# Altium integrated library Actel Axcelerator.IntLib: 120 symbols (part 22 of 31)
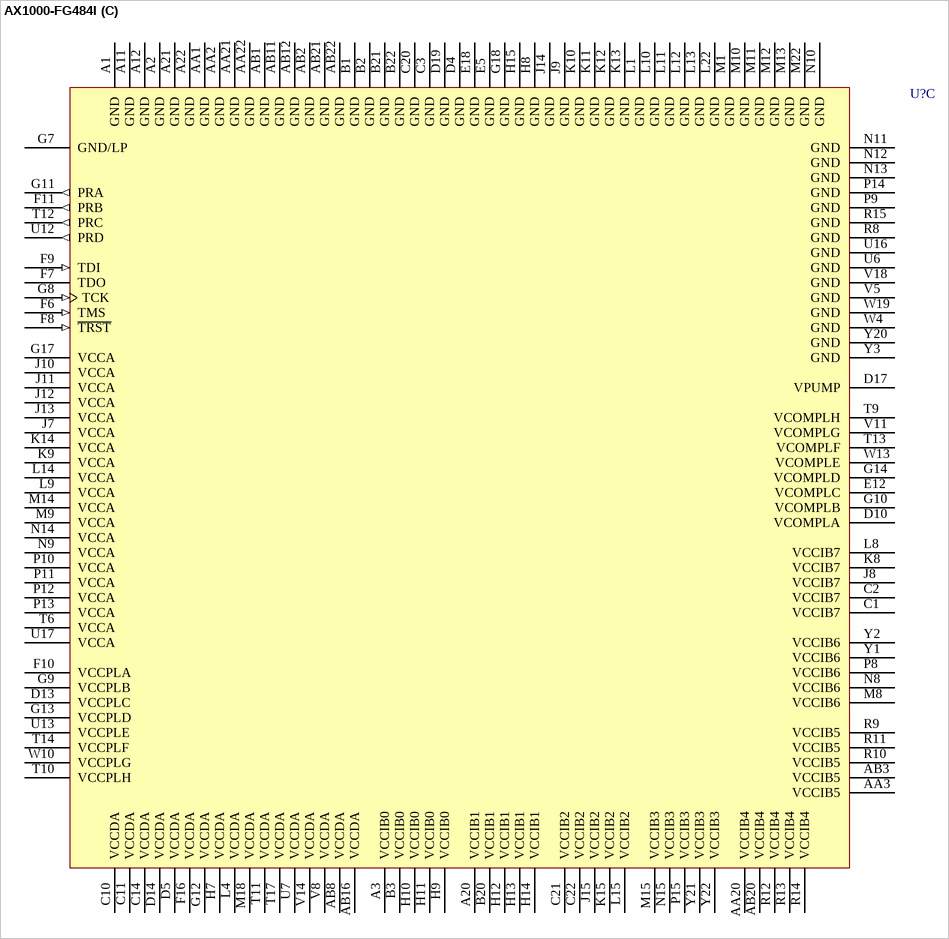
[diagram p375: symbol AX1000-FG484I]

## AX1000-FG484I
designator U?
Axcelerator AX1000 FPGA, 317 User I/Os, 484-Pin FBGA, Standard Speed Grade, Industrial Grade; ComponentAvailability: Limited Availability; Published: 17-Sep-2003; LatestRevisionDate: 13-Apr-2006; LatestRevisionNote: IPC-7351 Footprint Added.; DatasheetVersion: Jan-2005; PackageVersion: v9.2, Apr-2006; PackageReference: FG484; Publisher: Altium Limited; PackageDescription: 484-Ball Fine Pitch Plastic Ball Grid Array (FG484) - Fully Populated; Code_JEDEC: MS-034-AAJ-1; Code_IPC: BGA100P22X22-484; ComponentLink1Description: Manufacturer Link; ComponentLink1URL: http://www.actel.com/products/axcelerator/index.html; ComponentLink2Description: Datasheet; ComponentLink2URL: http://www.actel.com/documents/AXDS.pdf
footprint FG484 (BGA, 484-Leads, Body 23x23mm, Pitch 1mm)
3D model AX1000-FG484 (484-Ball Fine Pitch Plastic Ball Grid Array (FG484) - Fully Populated)
part A pins: A4 IO16PB0F1 (io), A5 IO16NB0F1 (io), A6 IO18PB0F1 (io), A7 IO18NB0F1 (io), A8 IO22PB0F2 (io), A9 IO22NB0F2 (io), A10 IO23PB0F2 (io), A13 IO26PB0F2 (io), A14 IO26NB0F2 (io), A15 IO38PB1F3 (io), A16 IO38NB1F3 (io), A17 IO42PB1F4 (io), A18 IO42NB1F4 (io), A19 IO45PB1F4 (io), B4 IO13PB0F1 (io), B5 IO13NB0F1 (io), B6 IO17PB0F1 (io), B7 IO17NB0F1 (io), B8 IO21PB0F1 (io), B9 IO21NB0F1 (io), B10 IO23NB0F2 (io), B11 IO29PB0F2 (io), B12 IO29NB0F2 (io), B13 IO37PB1F3 (io), B14 IO37NB1F3 (io), B15 IO43PB1F4 (io), B16 IO43NB1F4 (io), B17 IO44PB1F4 (io), B18 IO44NB1F4 (io), B19 IO45NB1F4 (io), C4 IO06PB0F0 (io), C5 IO06NB0F0 (io), C6 IO15PB0F1 (io), C7 IO15NB0F1 (io), C8 IO19PB0F1 (io), C9 IO19NB0F1 (io), C12 IO34PB1F3 (io), C13 IO34NB1F3 (io), C15 IO40NB1F3 (io), C16 IO50PB1F4 (io), C17 IO50NB1F4 (io), C18 IO46PB1F4 (io), C19 IO46NB1F4 (io), D2 IO05NB0F0 (io), D3 IO01PB0F0 (io), D6 IO12PB0F1 (io), D7 IO12NB0F1 (io), D8 IO20PB0F1 (io), D9 IO20NB0F1 (io), D11 IO31PB0F2/HCLKBP (io), D12 IO31NB0F2/HCLKBN (io), D15 IO49PB1F4 (io), D16 IO49NB1F4 (io), D18 IO61NB1F5 (io), D20 IO63PB1F5 (io), D21 IO57PB1F5 (io), D22 IO51PB1F4 (io), E2 IO05PB0F0 (io), E3 IO01NB0F0 (io), E6 IO02PB0F0 (io), E7 IO02NB0F0 (io), E8 IO14PB0F1 (io), E9 IO14NB0F1 (io), E10 IO30PB0F2/HCLKAP (io), E11 IO30NB0F2/HCLKAN (io), E13 IO33PB1F3/HCLKDP (io), E14 IO33NB1F3/HCLKDN (io), E15 IO52PB1F4 (io), E16 IO52NB1F4 (io), E17 IO61PB1F5 (io), E19 IO67PB2F6 (io), E20 IO63NB1F5 (io), E21 IO57NB1F5 (io), E22 IO51NB1F4 (io), F12 IO32PB1F3/HCLKCP (io), F13 IO32NB1F3/HCLKCN (io), F14 IO48PB1F4 (io), F15 IO48NB1F4 (io), F17 IO64PB2F6 (io), F18 IO64NB2F6 (io), F19 IO67NB2F6 (io), F20 IO75PB2F7 (io), F21 IO85PB2F8 (io), F22 IO86PB2F8 (io), G15 IO60PB1F5 (io), G16 IO60NB1F5 (io), G19 IO79PB2F7 (io), G20 IO75NB2F7 (io), G21 IO85NB2F8 (io), G22 IO86NB2F8 (io), H16 IO68PB2F6 (io), H17 IO70PB2F6 (io), H18 IO74PB2F7 (io), H19 IO79NB2F7 (io), H20 IO87PB2F8 (io), H21 IO90PB2F8 (io), H22 IO91PB2F8 (io), J16 IO68NB2F6 (io), J17 IO70NB2F6 (io), J18 IO74NB2F7 (io), J19 IO89PB2F8 (io), J20 IO87NB2F8 (io), J21 IO90NB2F8 (io), J22 IO91NB2F8 (io), K16 IO80PB2F7 (io), K17 IO84PB2F7 (io), K18 IO88PB2F8 (io), K19 IO89NB2F8 (io), K20 IO94PB2F8 (io), K21 IO93NB2F8 (io), K22 IO93PB2F8 (io), L16 IO80NB2F7 (io), L17 IO84NB2F7 (io), L18 IO88NB2F8 (io), L19 IO97PB3F9 (io), L20 IO94NB2F8 (io), L21 IO95PB2F8 (io), M16 IO96PB3F9 (io), M17 IO100PB3F9 (io), M19 IO97NB3F9 (io), M20 IO99PB3F9 (io), M21 IO95NB2F8 (io), N16 IO96NB3F9 (io), N17 IO100NB3F9 (io), N18 IO104NB3F9 (io), N19 IO104PB3F9 (io), N20 IO99NB3F9 (io), N21 IO101PB3F9 (io), N22 IO98PB3F9 (io), P16 IO124PB3F11 (io), P17 IO106PB3F9 (io), P18 IO114NB3F10 (io), P19 IO114PB3F10 (io), P20 IO103PB3F9 (io), P21 IO101NB3F9 (io), P22 IO98NB3F9 (io), R16 IO124NB3F11 (io), R17 IO106NB3F9 (io), R18 IO118PB3F11 (io), R19 IO116PB3F10 (io), R20 IO103NB3F9 (io), R21 IO107PB3F10 (io), R22 IO105PB3F9 (io), T18 IO118NB3F11 (io), T19 IO121PB3F11 (io), T20 IO117PB3F10 (io), T21 IO107NB3F10 (io), T22 IO105NB3F9 (io), U19 IO121NB3F11 (io), U20 IO117NB3F10 (io), U21 IO113PB3F10 (io), U22 IO110PB3F10 (io), V21 IO113NB3F10 (io), V22 IO110NB3F10 (io), W21 IO127NB3F11 (io), W22 IO127PB3F11 (io)
part B pins: AA4 IO177NB5F16 (io), AA5 IO176NB5F16 (io), AA6 IO176PB5F16 (io), AA7 IO174NB5F16 (io), AA8 IO174PB5F16 (io), AA9 IO169NB5F15 (io), AA10 IO169PB5F15 (io), AA11 IO167NB5F15 (io), AA12 IO167PB5F15 (io), AA13 IO155NB4F14 (io), AA14 IO152NB4F14 (io), AA15 IO152PB4F14 (io), AA16 IO150NB4F13 (io), AA17 IO150PB4F13 (io), AA18 IO144NB4F13 (io), AA19 IO144PB4F13 (io), AB4 IO177PB5F16 (io), AB5 IO175NB5F16 (io), AB6 IO175PB5F16 (io), AB7 IO184NB5F17 (io), AB9 IO170NB5F15 (io), AB10 IO170PB5F15 (io), AB13 IO155PB4F14 (io), AB14 IO154NB4F14 (io), AB15 IO154PB4F14 (io), AB17 IO129PB4F12 (io), AB18 IO147NB4F13 (io), AB19 IO147PB4F13 (io), D1 IO254NB7F23 (io), E1 IO254PB7F23 (io), E4 IO257PB7F23 (io), F1 IO234NB7F21 (io), F2 IO235NB7F21 (io), F3 IO246NB7F22 (io), F4 IO250NB7F23 (io), F5 IO257NB7F23 (io), G1 IO234PB7F21 (io), G2 IO235PB7F21 (io), G3 IO246PB7F22 (io), G4 IO250PB7F23 (io), G5 IO253NB7F23 (io), G6 IO253PB7F23 (io), H1 IO230NB7F21 (io), H2 IO231NB7F21 (io), H3 IO236NB7F22 (io), H4 IO242NB7F22 (io), H5 IO243NB7F22 (io), H6 IO241NB7F22 (io), J1 IO230PB7F21 (io), J2 IO231PB7F21 (io), J3 IO236PB7F22 (io), J4 IO242PB7F22 (io), J5 IO243PB7F22 (io), J6 IO241PB7F22 (io), K1 IO226PB7F21 (io), K2 IO226NB7F21 (io), K3 IO232PB7F21 (io), K4 IO232NB7F21 (io), K5 IO229NB7F21 (io), K6 IO233NB7F21 (io), K7 IO237NB7F22 (io), L2 IO228PB7F21 (io), L3 IO228NB7F21 (io), L5 IO229PB7F21 (io), L6 IO233PB7F21 (io), L7 IO237PB7F22 (io), M2 IO225NB7F21 (io), M3 IO222NB6F20 (io), M4 IO224NB6F20 (io), M5 IO219NB6F20 (io), M6 IO215NB6F20 (io), M7 IO223NB6F20 (io), N1 IO225PB7F21 (io), N2 IO221NB6F20 (io), N3 IO222PB6F20 (io), N4 IO224PB6F20 (io), N5 IO219PB6F20 (io), N6 IO215PB6F20 (io), N7 IO223PB6F20 (io), P1 IO220NB6F20 (io), P2 IO221PB6F20 (io), P3 IO214NB6F20 (io), P4 IO212NB6F19 (io), P5 IO205NB6F19 (io), P6 IO201NB6F18 (io), P7 IO209NB6F19 (io), R1 IO220PB6F20 (io), R2 IO216NB6F20 (io), R3 IO214PB6F20 (io), R4 IO212PB6F19 (io), R5 IO205PB6F19 (io), R6 IO201PB6F18 (io), R7 IO209PB6F19 (io), T1 IO217NB6F20 (io), T2 IO216PB6F20 (io), T3 IO204NB6F19 (io), T4 IO200NB6F18 (io), T5 IO195PB6F18 (io), T7 IO179NB5F16 (io), T8 IO179PB5F16 (io), T15 IO135NB4F12 (io), T16 IO135PB4F12 (io), U1 IO217PB6F20 (io), U2 IO203NB6F19 (io), U3 IO204PB6F19 (io), U4 IO200PB6F18 (io), U5 IO195NB6F18 (io), U8 IO173NB5F16 (io), U9 IO173PB5F16 (io), U10 IO161NB5F15/CLKGN (io), U11 IO161PB5F15/CLKGP (io), U14 IO145NB4F13 (io), U15 IO145PB4F13 (io), U18 IO140NB4F13 (io), V1 IO208NB6F19 (io), V2 IO194NB6F18 (io), V3 IO187NB5F17 (io), V4 IO188NB5F17 (io), V6 IO192NB5F17 (io), V7 IO192PB5F17 (io), V9 IO162NB5F15/CLKHN (io), V10 IO162PB5F15/CLKHP (io), V12 IO159NB4F14/CLKEN (io), V13 IO159PB4F14/CLKEP (io), V15 IO139NB4F13 (io), V16 IO139PB4F13 (io), V17 IO133PB4F12 (io), V19 IO140PB4F13 (io), V20 IO142PB4F13 (io), W1 IO208PB6F19 (io), W2 IO194PB6F18 (io), W3 IO187PB5F17 (io), W5 IO188PB5F17 (io), W6 IO180NB5F16 (io), W7 IO180PB5F16 (io), W8 IO171NB5F16 (io), W9 IO171PB5F16 (io), W11 IO160NB4F14/CLKFN (io), W12 IO160PB4F14/CLKFP (io), W14 IO149PB4F13 (io), W15 IO143NB4F13 (io), W16 IO143PB4F13 (io), W17 IO133NB4F12 (io), W18 IO132PB4F12 (io), W20 IO142NB4F13 (io), Y4 IO181NB5F17 (io), Y5 IO181PB5F17 (io), Y6 IO178NB5F16 (io), Y7 IO178PB5F16 (io), Y8 IO172NB5F16 (io), Y9 IO172PB5F16 (io), Y10 IO163NB5F15 (io), Y11 IO163PB5F15 (io), Y12 IO158NB4F14 (io), Y13 IO158PB4F14 (io), Y14 IO149NB4F13 (io), Y15 IO146NB4F13 (io), Y16 IO146PB4F13 (io), Y17 IO138NB4F12 (io), Y18 IO138PB4F12 (io), Y19 IO132NB4F12 (io)
part C pins: A1 GND (power), A2 GND (power), A3 VCCIB0 (power), A11 GND (power), A12 GND (power), A20 VCCIB1 (power), A21 GND (power), A22 GND (power), AA1 GND (power), AA2 GND (power), AA3 VCCIB5 (power), AA20 VCCIB4 (power), AA21 GND (power), AA22 GND (power), AB1 GND (power), AB2 GND (power), AB3 VCCIB5 (power), AB8 VCCDA (power), AB11 GND (power), AB12 GND (power), AB16 VCCDA (power), AB20 VCCIB4 (power), AB21 GND (power), AB22 GND (power), B1 GND (power), B2 GND (power), B3 VCCIB0 (power), B20 VCCIB1 (power), B21 GND (power), B22 GND (power), C1 VCCIB7 (power), C2 VCCIB7 (power), C3 GND (power), C10 VCCDA (power), C11 VCCDA (power), C14 VCCDA (power), C20 GND (power), C21 VCCIB2 (power), C22 VCCIB2 (power), D4 GND (power), D5 VCCDA (power), D10 VCOMPLA (power), D13 VCCPLC (power), D14 VCCDA (power), D17 VPUMP (power), D19 GND (power), E5 GND (power), E12 VCOMPLC (power), E18 GND (power), F6 TMS (in), F7 TDO (hiz), F8 ~{TRST} (in), F9 TDI (in), F10 VCCPLA (power), F11 PRB (out), F16 VCCDA (power), G7 GND/LP (power), G8 TCK (in), G9 VCCPLB (power), G10 VCOMPLB (power), G11 PRA (out), G12 VCCDA (power), G13 VCCPLD (power), G14 VCOMPLD (power), G17 VCCA (power), G18 GND (power), H7 VCCDA (power), H8 GND (power), H9 VCCIB0 (power), H10 VCCIB0 (power), H11 VCCIB0 (power), H12 VCCIB1 (power), H13 VCCIB1 (power), H14 VCCIB1 (power), H15 GND (power), J7 VCCA (power), J8 VCCIB7 (power), J9 GND (power), J10 VCCA (power), J11 VCCA (power), J12 VCCA (power), J13 VCCA (power), J14 GND (power), J15 VCCIB2 (power), K8 VCCIB7 (power), K9 VCCA (power), K10 GND (power), K11 GND (power), K12 GND (power), K13 GND (power), K14 VCCA (power), K15 VCCIB2 (power), L1 GND (power), L4 VCCDA (power), L8 VCCIB7 (power), L9 VCCA (power), L10 GND (power), L11 GND (power), L12 GND (power), L13 GND (power), L14 VCCA (power), L15 VCCIB2 (power), L22 GND (power), M1 GND (power), M8 VCCIB6 (power), M9 VCCA (power), M10 GND (power), M11 GND (power), M12 GND (power), M13 GND (power), M14 VCCA (power), M15 VCCIB3 (power), M18 VCCDA (power), M22 GND (power), N8 VCCIB6 (power), N9 VCCA (power), N10 GND (power), N11 GND (power), N12 GND (power), N13 GND (power), N14 VCCA (power), N15 VCCIB3 (power), P8 VCCIB6 (power), P9 GND (power), P10 VCCA (power), P11 VCCA (power), P12 VCCA (power), P13 VCCA (power), P14 GND (power), P15 VCCIB3 (power), R8 GND (power), R9 VCCIB5 (power), R10 VCCIB5 (power), R11 VCCIB5 (power), R12 VCCIB4 (power), R13 VCCIB4 (power), R14 VCCIB4 (power), R15 GND (power), T6 VCCA (power), T9 VCOMPLH (power), T10 VCCPLH (power), T11 VCCDA (power), T12 PRC (out), T13 VCOMPLF (power), T14 VCCPLF (power), T17 VCCDA (power), U6 GND (power), U7 VCCDA (power), U12 PRD (out), U13 VCCPLE (power), U16 GND (power), U17 VCCA (power), V5 GND (power), V8 VCCDA (power), V11 VCOMPLG (power), V14 VCCDA (power), V18 GND (power), W4 GND (power), W10 VCCPLG (power), W13 VCOMPLE (power), W19 GND (power), Y1 VCCIB6 (power), Y2 VCCIB6 (power), Y3 GND (power), Y20 GND (power), Y21 VCCIB3 (power), Y22 VCCIB3 (power)
part A text: Bank 0; Bank 3; Bank 1; Bank 2
part B text: Bank 4; Bank 7; Bank 5; Bank 6

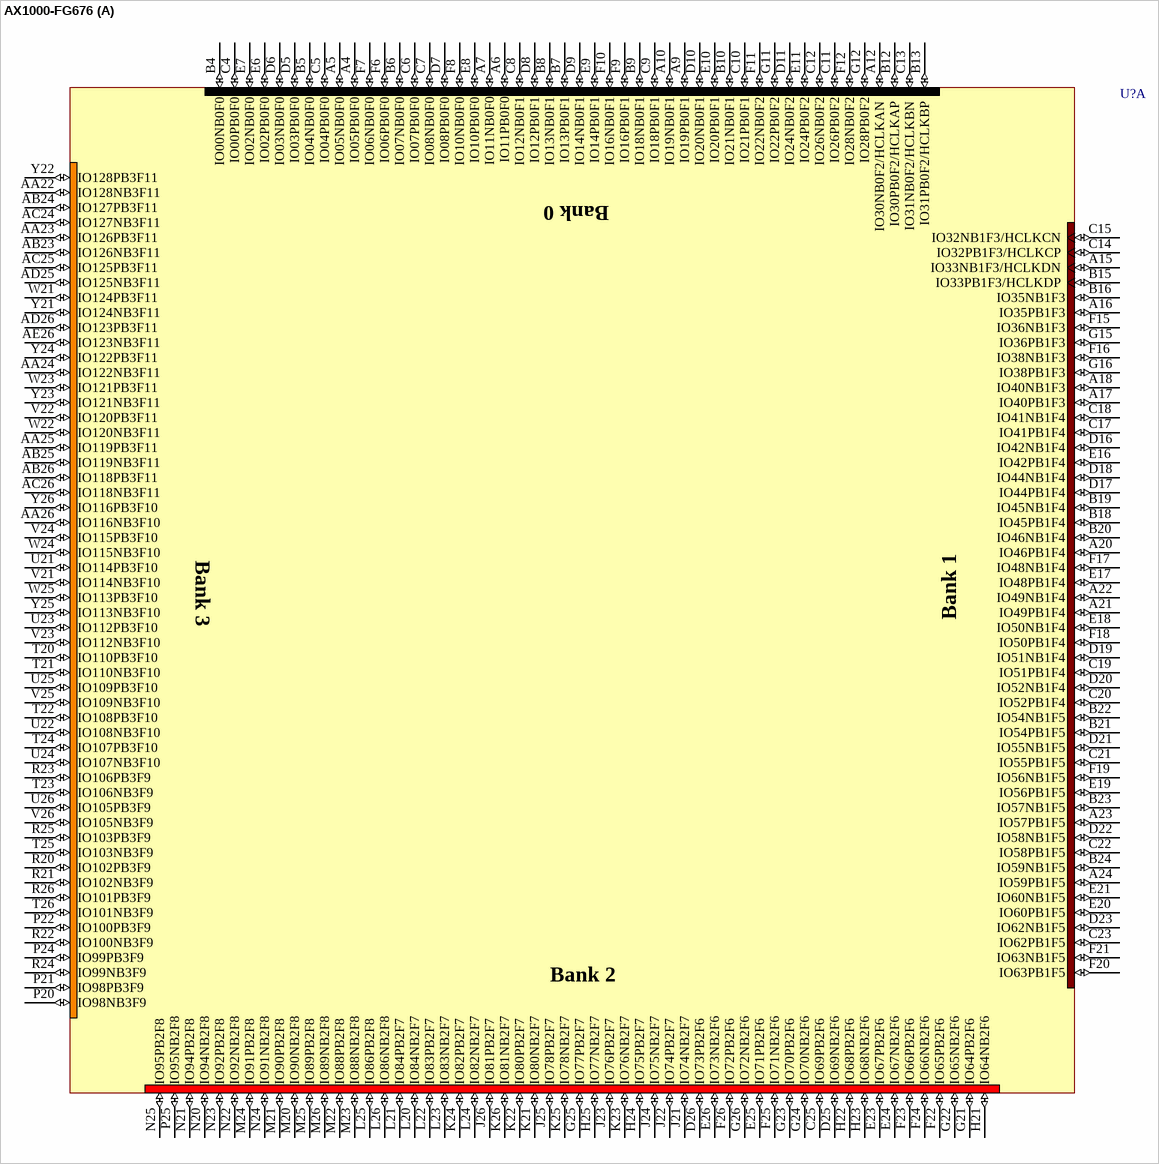
[diagram p243: symbol AX1000-FG676]

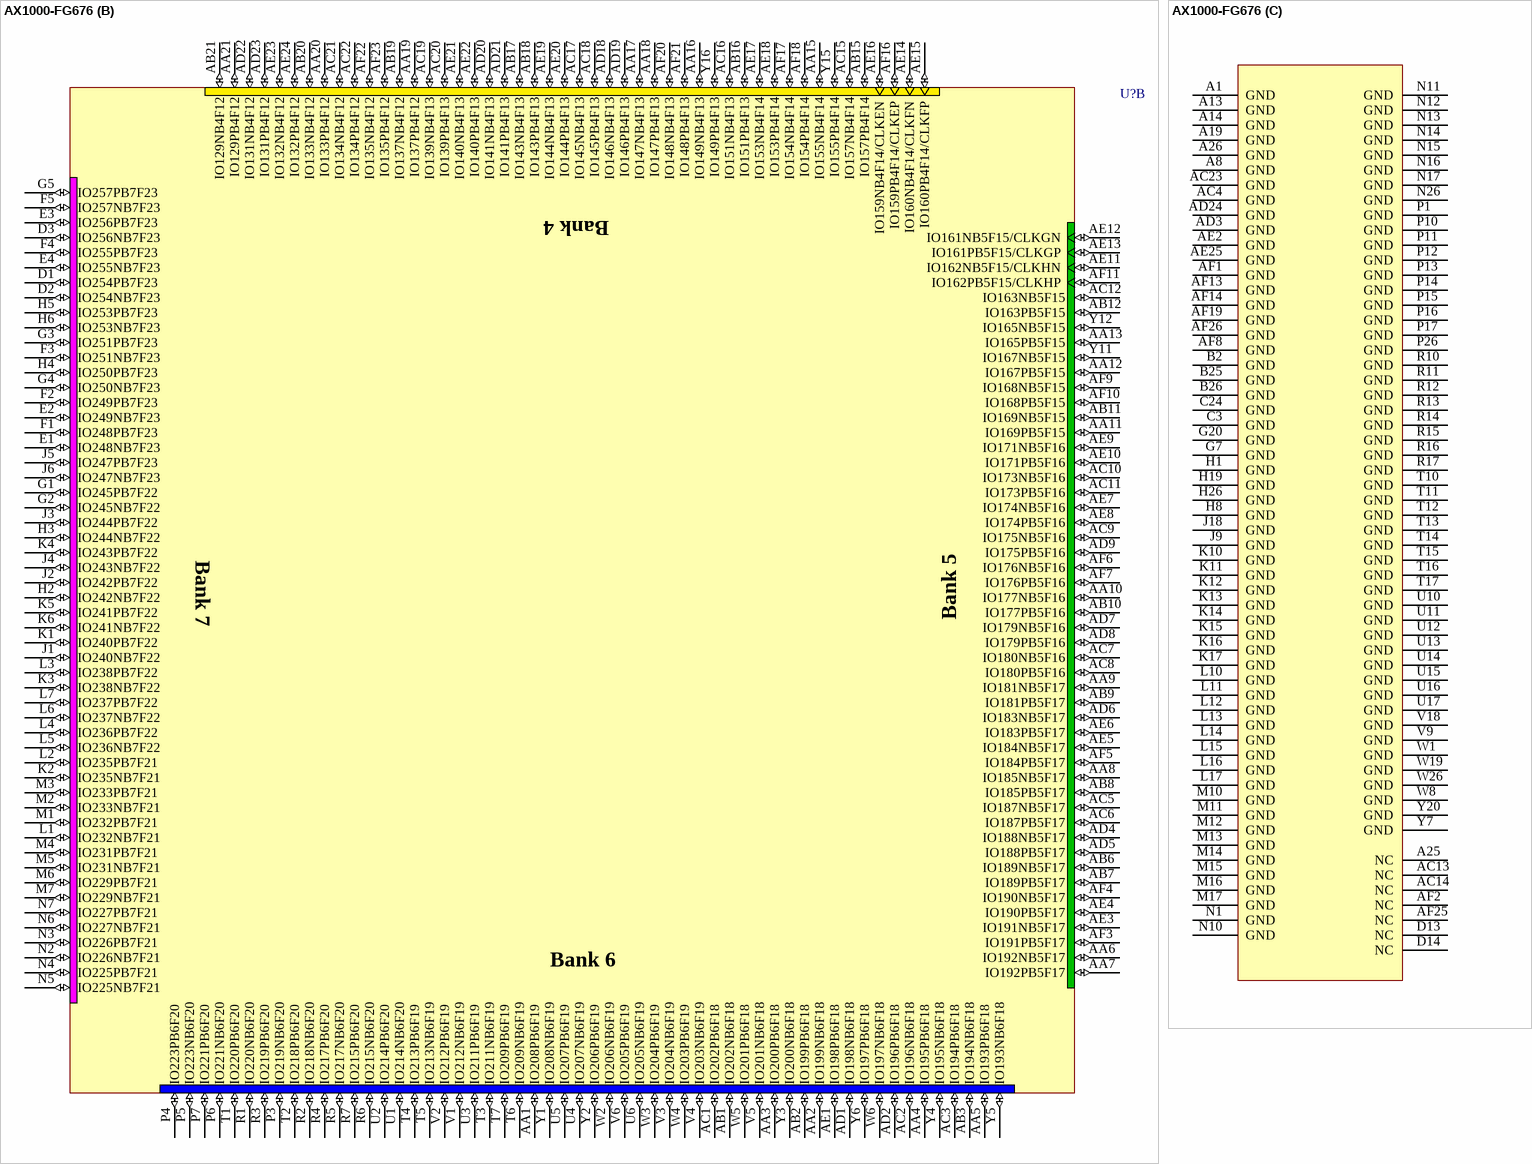
[diagram p244: symbol AX1000-FG676]

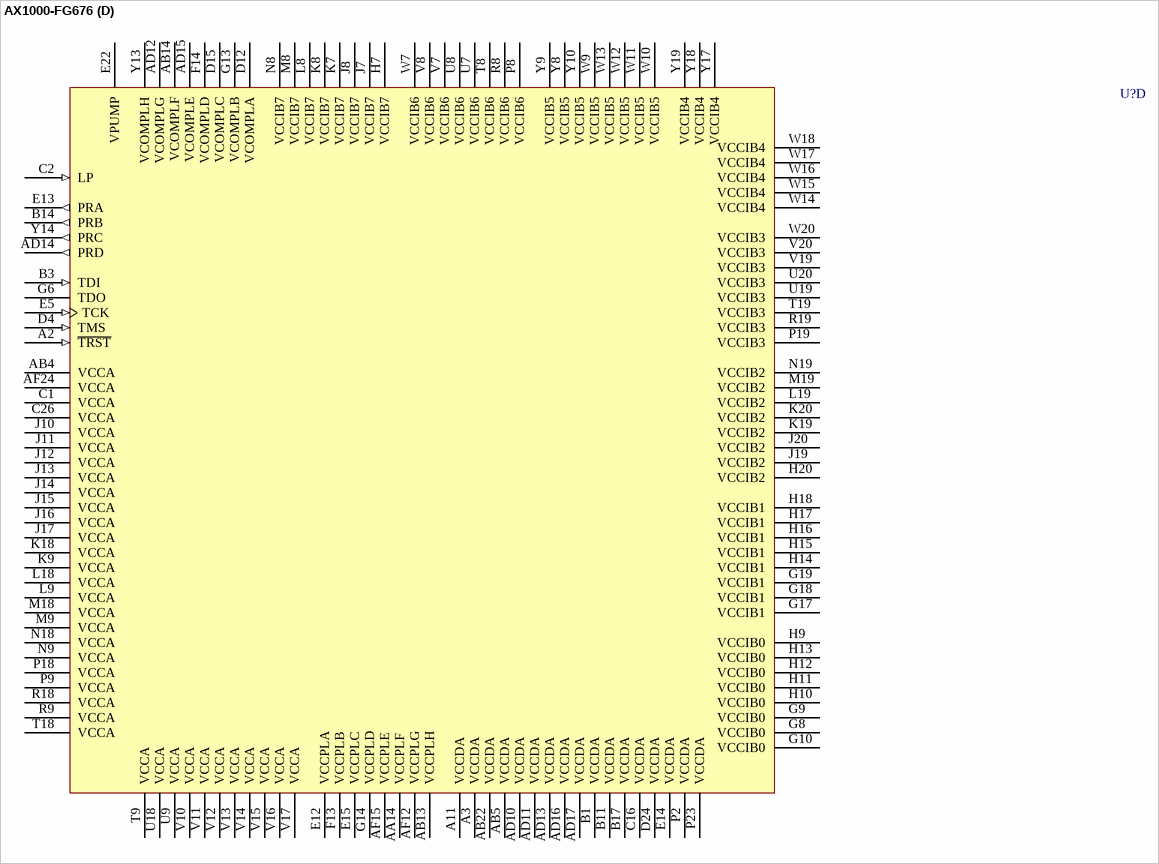
[diagram p245: symbol AX1000-FG676]

## AX1000-FG676
designator U?
Axcelerator AX1000 FPGA, 418 I/Os, 676-Pin FBGA, Standard Speed Grade, Commercial Grade; ComponentAvailability: Limited Availability; Published: 21-May-2003; LatestRevisionDate: 13-Apr-2006; LatestRevisionNote: IPC-7351 Footprint Added.; DatasheetVersion: Jan-2005; PackageVersion: v9.2, Apr-2006; PackageReference: FG676; Publisher: Altium Limited; PackageDescription: 676-Ball Fine Pitch Plastic Ball Grid Array (FG676); Code_JEDEC: MS-034-AAL-1; Code_IPC: BGA100P26X26-676; ComponentLink1Description: Manufacturer Link; ComponentLink1URL: http://www.actel.com/products/axcelerator/index.html; ComponentLink2Description: Datasheet; ComponentLink2URL: http://www.actel.com/documents/AXDS.pdf
footprint FG676 (BGA, 676-Leads, Body 27x27mm, Pitch 1mm)
3D model AX1000-FG676 (676-Ball Fine Pitch Plastic Ball Grid Array (FG676))
part A pins: A4 IO05PB0F0 (io), A5 IO05NB0F0 (io), A6 IO11PB0F0 (io), A7 IO11NB0F0 (io), A9 IO19PB0F1 (io), A10 IO19NB0F1 (io), A12 IO30NB0F2/HCLKAN (io), A15 IO33NB1F3/HCLKDN (io), A16 IO35PB1F3 (io), A17 IO40PB1F3 (io), A18 IO40NB1F3 (io), A20 IO46PB1F4 (io), A21 IO49PB1F4 (io), A22 IO49NB1F4 (io), A23 IO57PB1F5 (io), A24 IO59PB1F5 (io), AA22 IO128NB3F11 (io), AA23 IO126PB3F11 (io), AA24 IO122NB3F11 (io), AA25 IO119PB3F11 (io), AA26 IO116NB3F10 (io), AB23 IO126NB3F11 (io), AB24 IO127PB3F11 (io), AB25 IO119NB3F11 (io), AB26 IO118PB3F11 (io), AC24 IO127NB3F11 (io), AC25 IO125PB3F11 (io), AC26 IO118NB3F11 (io), AD25 IO125NB3F11 (io), AD26 IO123PB3F11 (io), AE26 IO123NB3F11 (io), B4 IO00NB0F0 (io), B5 IO04NB0F0 (io), B6 IO07NB0F0 (io), B7 IO13PB0F1 (io), B8 IO13NB0F1 (io), B9 IO18NB0F1 (io), B10 IO21NB0F1 (io), B12 IO30PB0F2/HCLKAP (io), B13 IO31PB0F2/HCLKBP (io), B15 IO33PB1F3/HCLKDP (io), B16 IO35NB1F3 (io), B18 IO45PB1F4 (io), B19 IO45NB1F4 (io), B20 IO46NB1F4 (io), B21 IO54PB1F5 (io), B22 IO54NB1F5 (io), B23 IO57NB1F5 (io), B24 IO59NB1F5 (io), C4 IO00PB0F0 (io), C5 IO04PB0F0 (io), C6 IO07PB0F0 (io), C7 IO08NB0F0 (io), C8 IO12NB0F1 (io), C9 IO18PB0F1 (io), C10 IO21PB0F1 (io), C11 IO26PB0F2 (io), C12 IO26NB0F2 (io), C13 IO31NB0F2/HCLKBN (io), C14 IO32PB1F3/HCLKCP (io), C15 IO32NB1F3/HCLKCN (io), C17 IO41PB1F4 (io), C18 IO41NB1F4 (io), C19 IO51PB1F4 (io), C20 IO52PB1F4 (io), C21 IO55PB1F5 (io), C22 IO58PB1F5 (io), C23 IO62PB1F5 (io), C25 IO69PB2F6 (io), D5 IO03PB0F0 (io), D6 IO03NB0F0 (io), D7 IO08PB0F0 (io), D8 IO12PB0F1 (io), D9 IO14NB0F1 (io), D10 IO20NB0F1 (io), D11 IO24NB0F2 (io), D16 IO42NB1F4 (io), D17 IO44PB1F4 (io), D18 IO44NB1F4 (io), D19 IO51NB1F4 (io), D20 IO52NB1F4 (io), D21 IO55NB1F5 (io), D22 IO58NB1F5 (io), D23 IO62NB1F5 (io), D25 IO69NB2F6 (io), D26 IO73PB2F6 (io), E6 IO02PB0F0 (io), E7 IO02NB0F0 (io), E8 IO10PB0F0 (io), E9 IO14PB0F1 (io), E10 IO20PB0F1 (io), E11 IO24PB0F2 (io), E16 IO42PB1F4 (io), E17 IO48PB1F4 (io), E18 IO50NB1F4 (io), E19 IO56PB1F5 (io), E20 IO60PB1F5 (io), E21 IO60NB1F5 (io), E23 IO67PB2F6 (io), E24 IO67NB2F6 (io), E25 IO71PB2F6 (io), E26 IO73NB2F6 (io), F6 IO06PB0F0 (io), F7 IO06NB0F0 (io), F8 IO10NB0F0 (io), F9 IO16PB0F1 (io), F10 IO16NB0F1 (io), F11 IO22NB0F2 (io), F12 IO28NB0F2 (io), F15 IO36NB1F3 (io), F16 IO38NB1F3 (io), F17 IO48NB1F4 (io), F18 IO50PB1F4 (io), F19 IO56NB1F5 (io), F20 IO63PB1F5 (io), F21 IO63NB1F5 (io), F22 IO65PB2F6 (io), F23 IO66PB2F6 (io), F24 IO66NB2F6 (io), F25 IO71NB2F6 (io), F26 IO72PB2F6 (io), G11 IO22PB0F2 (io), G12 IO28PB0F2 (io), G15 IO36PB1F3 (io), G16 IO38PB1F3 (io), G21 IO64PB2F6 (io), G22 IO65NB2F6 (io), G23 IO70PB2F6 (io), G24 IO70NB2F6 (io), G25 IO77PB2F7 (io), G26 IO72NB2F6 (io), H21 IO64NB2F6 (io), H22 IO68PB2F6 (io), H23 IO68NB2F6 (io), H24 IO75PB2F7 (io), H25 IO77NB2F7 (io), J21 IO74NB2F7 (io), J22 IO74PB2F7 (io), J23 IO76PB2F7 (io), J24 IO75NB2F7 (io), J25 IO78PB2F7 (io), J26 IO81PB2F7 (io), K21 IO80NB2F7 (io), K22 IO80PB2F7 (io), K23 IO76NB2F7 (io), K24 IO82PB2F7 (io), K25 IO78NB2F7 (io), K26 IO81NB2F7 (io), L20 IO84NB2F7 (io), L21 IO84PB2F7 (io), L22 IO83PB2F7 (io), L23 IO83NB2F7 (io), L24 IO82NB2F7 (io), L25 IO86PB2F8 (io), L26 IO86NB2F8 (io), M20 IO90NB2F8 (io), M21 IO90PB2F8 (io), M22 IO88PB2F8 (io), M23 IO88NB2F8 (io), M24 IO91PB2F8 (io), M25 IO89PB2F8 (io), M26 IO89NB2F8 (io), N20 IO94NB2F8 (io), N21 IO94PB2F8 (io), N22 IO92NB2F8 (io), N23 IO92PB2F8 (io), N24 IO91NB2F8 (io), N25 IO95PB2F8 (io), P20 IO98NB3F9 (io), P21 IO98PB3F9 (io), P22 IO100PB3F9 (io), P24 IO99PB3F9 (io), P25 IO95NB2F8 (io), R20 IO102PB3F9 (io), R21 IO102NB3F9 (io), R22 IO100NB3F9 (io), R23 IO106PB3F9 (io), R24 IO99NB3F9 (io), R25 IO103PB3F9 (io), R26 IO101PB3F9 (io), T20 IO110PB3F10 (io), T21 IO110NB3F10 (io), T22 IO108PB3F10 (io), T23 IO106NB3F9 (io), T24 IO107PB3F10 (io), T25 IO103NB3F9 (io), T26 IO101NB3F9 (io), U21 IO114PB3F10 (io), U22 IO108NB3F10 (io), U23 IO112PB3F10 (io), U24 IO107NB3F10 (io), U25 IO109PB3F10 (io), U26 IO105PB3F9 (io), V21 IO114NB3F10 (io), V22 IO120PB3F11 (io), V23 IO112NB3F10 (io), V24 IO115PB3F10 (io), V25 IO109NB3F10 (io), V26 IO105NB3F9 (io), W21 IO124PB3F11 (io), W22 IO120NB3F11 (io), W23 IO121PB3F11 (io), W24 IO115NB3F10 (io), W25 IO113PB3F10 (io), Y21 IO124NB3F11 (io), Y22 IO128PB3F11 (io), Y23 IO121NB3F11 (io), Y24 IO122PB3F11 (io), Y25 IO113NB3F10 (io), Y26 IO116PB3F10 (io)
part B pins: AA1 IO208PB6F19 (io), AA2 IO199NB6F18 (io), AA3 IO200PB6F18 (io), AA4 IO195PB6F18 (io), AA5 IO193PB6F18 (io), AA6 IO192NB5F17 (io), AA7 IO192PB5F17 (io), AA8 IO185NB5F17 (io), AA9 IO181NB5F17 (io), AA10 IO177NB5F16 (io), AA11 IO169PB5F15 (io), AA12 IO167PB5F15 (io), AA13 IO165PB5F15 (io), AA15 IO155NB4F14 (io), AA16 IO149NB4F13 (io), AA17 IO147NB4F13 (io), AA18 IO147PB4F13 (io), AA19 IO137PB4F12 (io), AA20 IO133PB4F12 (io), AA21 IO129PB4F12 (io), AB1 IO202NB6F18 (io), AB2 IO199PB6F18 (io), AB3 IO194NB6F18 (io), AB6 IO189NB5F17 (io), AB7 IO189PB5F17 (io), AB8 IO185PB5F17 (io), AB9 IO181PB5F17 (io), AB10 IO177PB5F16 (io), AB11 IO169NB5F15 (io), AB12 IO163PB5F15 (io), AB15 IO157PB4F14 (io), AB16 IO151PB4F13 (io), AB17 IO143NB4F13 (io), AB18 IO143PB4F13 (io), AB19 IO137NB4F12 (io), AB20 IO133NB4F12 (io), AB21 IO129NB4F12 (io), AC1 IO202PB6F18 (io), AC2 IO196NB6F18 (io), AC3 IO194PB6F18 (io), AC5 IO187NB5F17 (io), AC6 IO187PB5F17 (io), AC7 IO180NB5F16 (io), AC8 IO180PB5F16 (io), AC9 IO175NB5F16 (io), AC10 IO173NB5F16 (io), AC11 IO173PB5F16 (io), AC12 IO163NB5F15 (io), AC15 IO157NB4F14 (io), AC16 IO151NB4F13 (io), AC17 IO145NB4F13 (io), AC18 IO145PB4F13 (io), AC19 IO139NB4F13 (io), AC20 IO139PB4F13 (io), AC21 IO134NB4F12 (io), AC22 IO134PB4F12 (io), AD1 IO198NB6F18 (io), AD2 IO196PB6F18 (io), AD4 IO188NB5F17 (io), AD5 IO188PB5F17 (io), AD6 IO183NB5F17 (io), AD7 IO179NB5F16 (io), AD8 IO179PB5F16 (io), AD9 IO175PB5F16 (io), AD18 IO146NB4F13 (io), AD19 IO146PB4F13 (io), AD20 IO141NB4F13 (io), AD21 IO141PB4F13 (io), AD22 IO131NB4F12 (io), AD23 IO131PB4F12 (io), AE1 IO198PB6F18 (io), AE3 IO191NB5F17 (io), AE4 IO190PB5F17 (io), AE5 IO184NB5F17 (io), AE6 IO183PB5F17 (io), AE7 IO174NB5F16 (io), AE8 IO174PB5F16 (io), AE9 IO171NB5F16 (io), AE10 IO171PB5F16 (io), AE11 IO162NB5F15/CLKHN (io), AE12 IO161NB5F15/CLKGN (io), AE13 IO161PB5F15/CLKGP (io), AE14 IO160NB4F14/CLKFN (io), AE15 IO160PB4F14/CLKFP (io), AE16 IO159NB4F14/CLKEN (io), AE17 IO153NB4F14 (io), AE18 IO153PB4F14 (io), AE19 IO144NB4F13 (io), AE20 IO144PB4F13 (io), AE21 IO140NB4F13 (io), AE22 IO140PB4F13 (io), AE23 IO132NB4F12 (io), AE24 IO132PB4F12 (io), AF3 IO191PB5F17 (io), AF4 IO190NB5F17 (io), AF5 IO184PB5F17 (io), AF6 IO176NB5F16 (io), AF7 IO176PB5F16 (io), AF9 IO168NB5F15 (io), AF10 IO168PB5F15 (io), AF11 IO162PB5F15/CLKHP (io), AF16 IO159PB4F14/CLKEP (io), AF17 IO154NB4F14 (io), AF18 IO154PB4F14 (io), AF20 IO148NB4F13 (io), AF21 IO148PB4F13 (io), AF22 IO135NB4F12 (io), AF23 IO135PB4F12 (io), D1 IO254PB7F23 (io), D2 IO254NB7F23 (io), D3 IO256NB7F23 (io), E1 IO248NB7F23 (io), E2 IO249NB7F23 (io), E3 IO256PB7F23 (io), E4 IO255NB7F23 (io), F1 IO248PB7F23 (io), F2 IO249PB7F23 (io), F3 IO251NB7F23 (io), F4 IO255PB7F23 (io), F5 IO257NB7F23 (io), G1 IO245PB7F22 (io), G2 IO245NB7F22 (io), G3 IO251PB7F23 (io), G4 IO250NB7F23 (io), G5 IO257PB7F23 (io), H2 IO242NB7F22 (io), H3 IO244NB7F22 (io), H4 IO250PB7F23 (io), H5 IO253PB7F23 (io), H6 IO253NB7F23 (io), J1 IO240NB7F22 (io), J2 IO242PB7F22 (io), J3 IO244PB7F22 (io), J4 IO243NB7F22 (io), J5 IO247PB7F23 (io), J6 IO247NB7F23 (io), K1 IO240PB7F22 (io), K2 IO235NB7F21 (io), K3 IO238NB7F22 (io), K4 IO243PB7F22 (io), K5 IO241PB7F22 (io), K6 IO241NB7F22 (io), L1 IO232NB7F21 (io), L2 IO235PB7F21 (io), L3 IO238PB7F22 (io), L4 IO236PB7F22 (io), L5 IO236NB7F22 (io), L6 IO237NB7F22 (io), L7 IO237PB7F22 (io), M1 IO232PB7F21 (io), M2 IO233NB7F21 (io), M3 IO233PB7F21 (io), M4 IO231PB7F21 (io), M5 IO231NB7F21 (io), M6 IO229PB7F21 (io), M7 IO229NB7F21 (io), N2 IO226NB7F21 (io), N3 IO226PB7F21 (io), N4 IO225PB7F21 (io), N5 IO225NB7F21 (io), N6 IO227NB7F21 (io), N7 IO227PB7F21 (io), P3 IO219NB6F20 (io), P4 IO223PB6F20 (io), P5 IO223NB6F20 (io), P6 IO221NB6F20 (io), P7 IO221PB6F20 (io), R1 IO220NB6F20 (io), R2 IO218NB6F20 (io), R3 IO219PB6F20 (io), R4 IO217PB6F20 (io), R5 IO217NB6F20 (io), R6 IO215NB6F20 (io), R7 IO215PB6F20 (io), T1 IO220PB6F20 (io), T2 IO218PB6F20 (io), T3 IO211NB6F19 (io), T4 IO213PB6F19 (io), T5 IO213NB6F19 (io), T6 IO209NB6F19 (io), T7 IO209PB6F19 (io), U1 IO214NB6F20 (io), U2 IO214PB6F20 (io), U3 IO211PB6F19 (io), U4 IO207NB6F19 (io), U5 IO207PB6F19 (io), U6 IO205NB6F19 (io), V1 IO212NB6F19 (io), V2 IO212PB6F19 (io), V3 IO204NB6F19 (io), V4 IO203NB6F19 (io), V5 IO201NB6F18 (io), V6 IO205PB6F19 (io), W2 IO206NB6F19 (io), W3 IO204PB6F19 (io), W4 IO203PB6F19 (io), W5 IO201PB6F18 (io), W6 IO197NB6F18 (io), Y1 IO208NB6F19 (io), Y2 IO206PB6F19 (io), Y3 IO200NB6F18 (io), Y4 IO195NB6F18 (io), Y5 IO193NB6F18 (io), Y6 IO197PB6F18 (io), Y11 IO167NB5F15 (io), Y12 IO165NB5F15 (io), Y15 IO155PB4F14 (io), Y16 IO149PB4F13 (io)
part C pins: A1 GND (power), A8 GND (power), A13 GND (power), A14 GND (power), A19 GND (power), A25 NC, A26 GND (power), AC4 GND (power), AC13 NC, AC14 NC, AC23 GND (power), AD3 GND (power), AD24 GND (power), AE2 GND (power), AE25 GND (power), AF1 GND (power), AF2 NC, AF8 GND (power), AF13 GND (power), AF14 GND (power), AF19 GND (power), AF25 NC, AF26 GND (power), B2 GND (power), B25 GND (power), B26 GND (power), C3 GND (power), C24 GND (power), D13 NC, D14 NC, G7 GND (power), G20 GND (power), H1 GND (power), H8 GND (power), H19 GND (power), H26 GND (power), J9 GND (power), J18 GND (power), K10 GND (power), K11 GND (power), K12 GND (power), K13 GND (power), K14 GND (power), K15 GND (power), K16 GND (power), K17 GND (power), L10 GND (power), L11 GND (power), L12 GND (power), L13 GND (power), L14 GND (power), L15 GND (power), L16 GND (power), L17 GND (power), M10 GND (power), M11 GND (power), M12 GND (power), M13 GND (power), M14 GND (power), M15 GND (power), M16 GND (power), M17 GND (power), N1 GND (power), N10 GND (power), N11 GND (power), N12 GND (power), N13 GND (power), N14 GND (power), N15 GND (power), N16 GND (power), N17 GND (power), N26 GND (power), P1 GND (power), P10 GND (power), P11 GND (power), P12 GND (power), P13 GND (power), P14 GND (power), P15 GND (power), P16 GND (power), P17 GND (power), P26 GND (power), R10 GND (power), R11 GND (power), R12 GND (power), R13 GND (power), R14 GND (power), R15 GND (power), R16 GND (power), R17 GND (power), T10 GND (power), T11 GND (power), T12 GND (power), T13 GND (power), T14 GND (power), T15 GND (power), T16 GND (power), T17 GND (power), U10 GND (power), U11 GND (power), U12 GND (power), U13 GND (power), U14 GND (power), U15 GND (power), U16 GND (power), U17 GND (power), V9 GND (power), V18 GND (power), W1 GND (power), W8 GND (power), W19 GND (power), W26 GND (power), Y7 GND (power), Y20 GND (power)
part D pins: A2 ~{TRST} (in), A3 VCCDA (power), A11 VCCDA (power), AA14 VCCPLF (power), AB4 VCCA (power), AB5 VCCDA (power), AB13 VCCPLH (power), AB14 VCOMPLF (power), AB22 VCCDA (power), AD10 VCCDA (power), AD11 VCCDA (power), AD12 VCOMPLG (power), AD13 VCCDA (power), AD14 PRD (out), AD15 VCOMPLE (power), AD16 VCCDA (power), AD17 VCCDA (power), AF12 VCCPLG (power), AF15 VCCPLE (power), AF24 VCCA (power), B1 VCCDA (power), B3 TDI (in), B11 VCCDA (power), B14 PRB (out), B17 VCCDA (power), C1 VCCA (power), C2 LP (in), C16 VCCDA (power), C26 VCCA (power), D4 TMS (in), D12 VCOMPLA (power), D15 VCOMPLC (power), D24 VCCDA (power), E5 TCK (in), E12 VCCPLA (power), E13 PRA (out), E14 VCCDA (power), E15 VCCPLC (power), E22 VPUMP (power), F13 VCCPLB (power), F14 VCOMPLD (power), G6 TDO (hiz), G8 VCCIB0 (power), G9 VCCIB0 (power), G10 VCCIB0 (power), G13 VCOMPLB (power), G14 VCCPLD (power), G17 VCCIB1 (power), G18 VCCIB1 (power), G19 VCCIB1 (power), H7 VCCIB7 (power), H9 VCCIB0 (power), H10 VCCIB0 (power), H11 VCCIB0 (power), H12 VCCIB0 (power), H13 VCCIB0 (power), H14 VCCIB1 (power), H15 VCCIB1 (power), H16 VCCIB1 (power), H17 VCCIB1 (power), H18 VCCIB1 (power), H20 VCCIB2 (power), J7 VCCIB7 (power), J8 VCCIB7 (power), J10 VCCA (power), J11 VCCA (power), J12 VCCA (power), J13 VCCA (power), J14 VCCA (power), J15 VCCA (power), J16 VCCA (power), J17 VCCA (power), J19 VCCIB2 (power), J20 VCCIB2 (power), K7 VCCIB7 (power), K8 VCCIB7 (power), K9 VCCA (power), K18 VCCA (power), K19 VCCIB2 (power), K20 VCCIB2 (power), L8 VCCIB7 (power), L9 VCCA (power), L18 VCCA (power), L19 VCCIB2 (power), M8 VCCIB7 (power), M9 VCCA (power), M18 VCCA (power), M19 VCCIB2 (power), N8 VCCIB7 (power), N9 VCCA (power), N18 VCCA (power), N19 VCCIB2 (power), P2 VCCDA (power), P8 VCCIB6 (power), P9 VCCA (power), P18 VCCA (power), P19 VCCIB3 (power), P23 VCCDA (power), R8 VCCIB6 (power), R9 VCCA (power), R18 VCCA (power), R19 VCCIB3 (power), T8 VCCIB6 (power), T9 VCCA (power), T18 VCCA (power), T19 VCCIB3 (power), U7 VCCIB6 (power), U8 VCCIB6 (power), U9 VCCA (power), U18 VCCA (power), U19 VCCIB3 (power), U20 VCCIB3 (power), V7 VCCIB6 (power), V8 VCCIB6 (power), V10 VCCA (power), V11 VCCA (power), V12 VCCA (power), V13 VCCA (power), V14 VCCA (power), V15 VCCA (power), V16 VCCA (power), V17 VCCA (power), V19 VCCIB3 (power), V20 VCCIB3 (power), W7 VCCIB6 (power), W9 VCCIB5 (power), W10 VCCIB5 (power), W11 VCCIB5 (power), W12 VCCIB5 (power), W13 VCCIB5 (power), W14 VCCIB4 (power), W15 VCCIB4 (power), W16 VCCIB4 (power), W17 VCCIB4 (power), W18 VCCIB4 (power), W20 VCCIB3 (power), Y8 VCCIB5 (power), Y9 VCCIB5 (power), Y10 VCCIB5 (power), Y13 VCOMPLH (power), Y14 PRC (out), Y17 VCCIB4 (power), Y18 VCCIB4 (power), Y19 VCCIB4 (power)
part A text: Bank 0; Bank 3; Bank 1; Bank 2
part B text: Bank 4; Bank 7; Bank 5; Bank 6

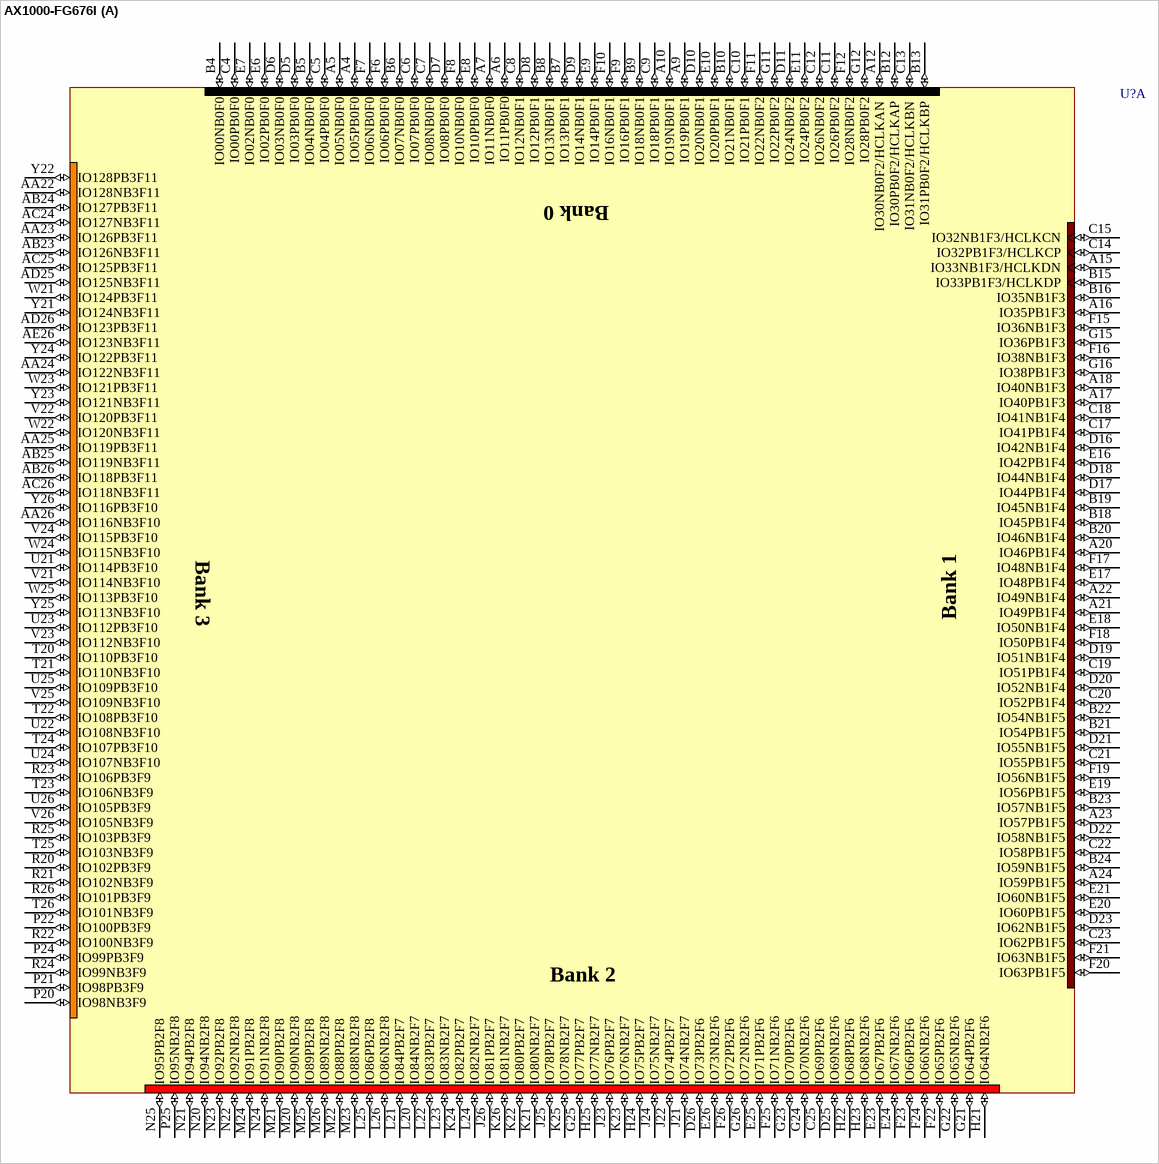
[diagram p246: symbol AX1000-FG676I]

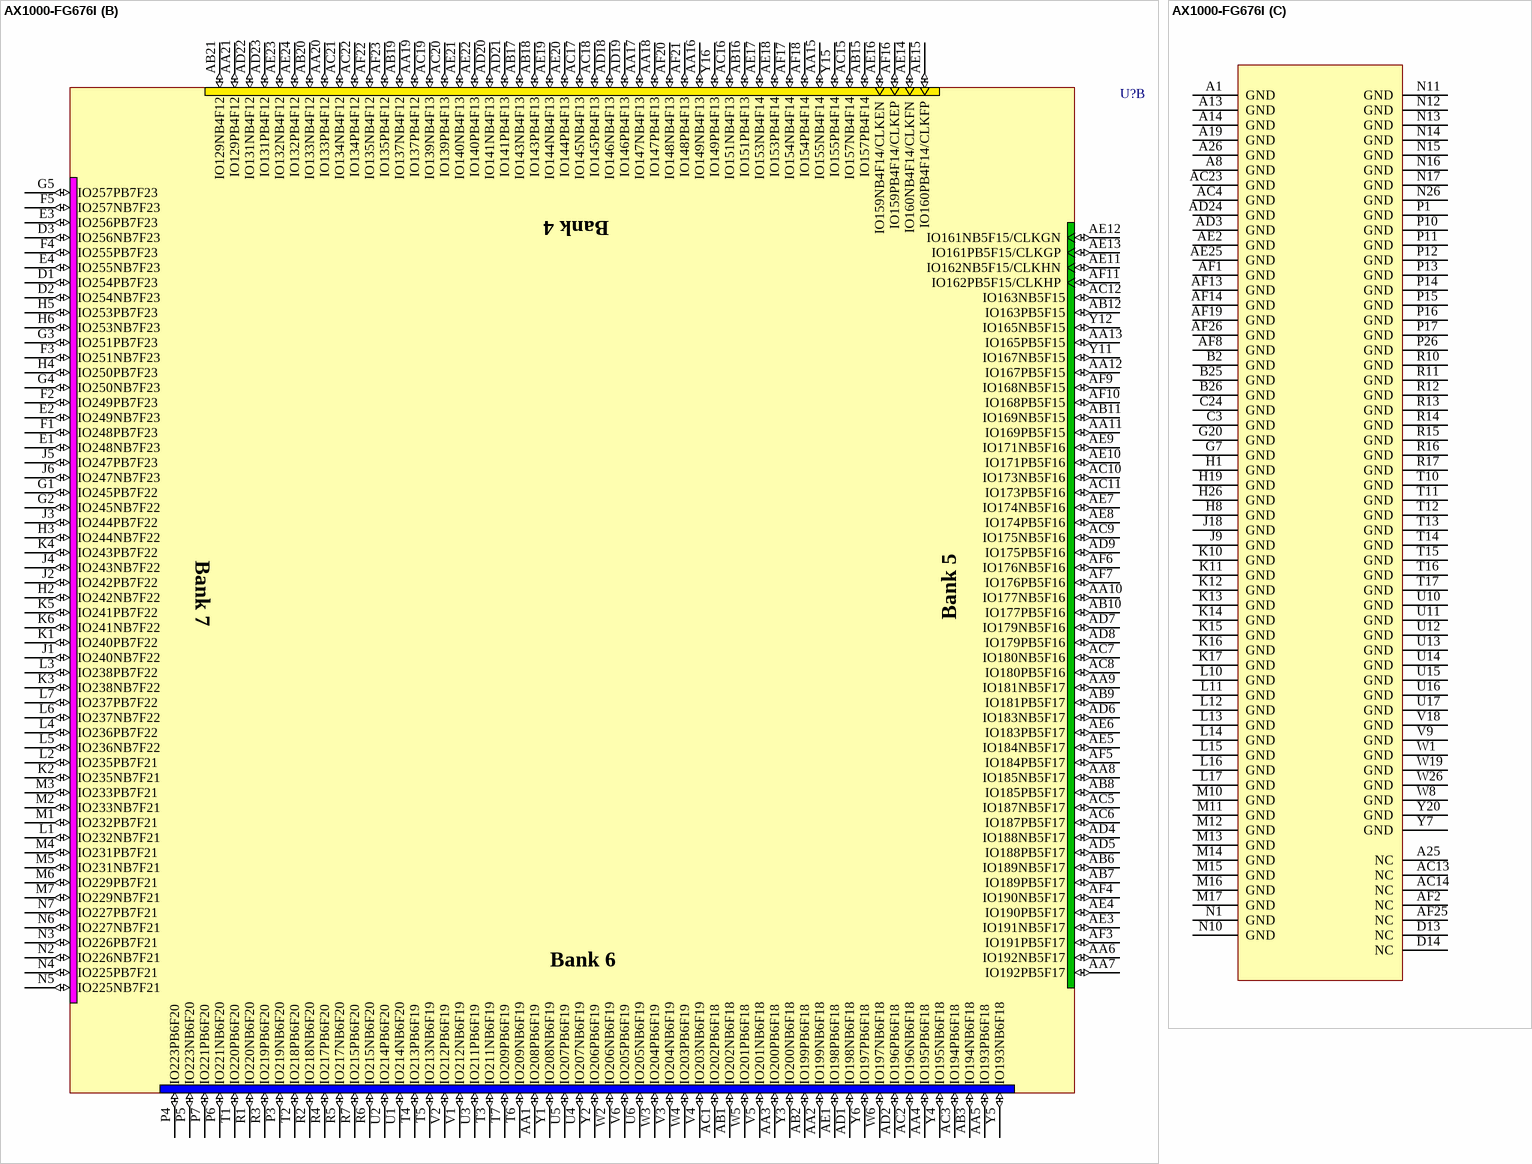
[diagram p247: symbol AX1000-FG676I]

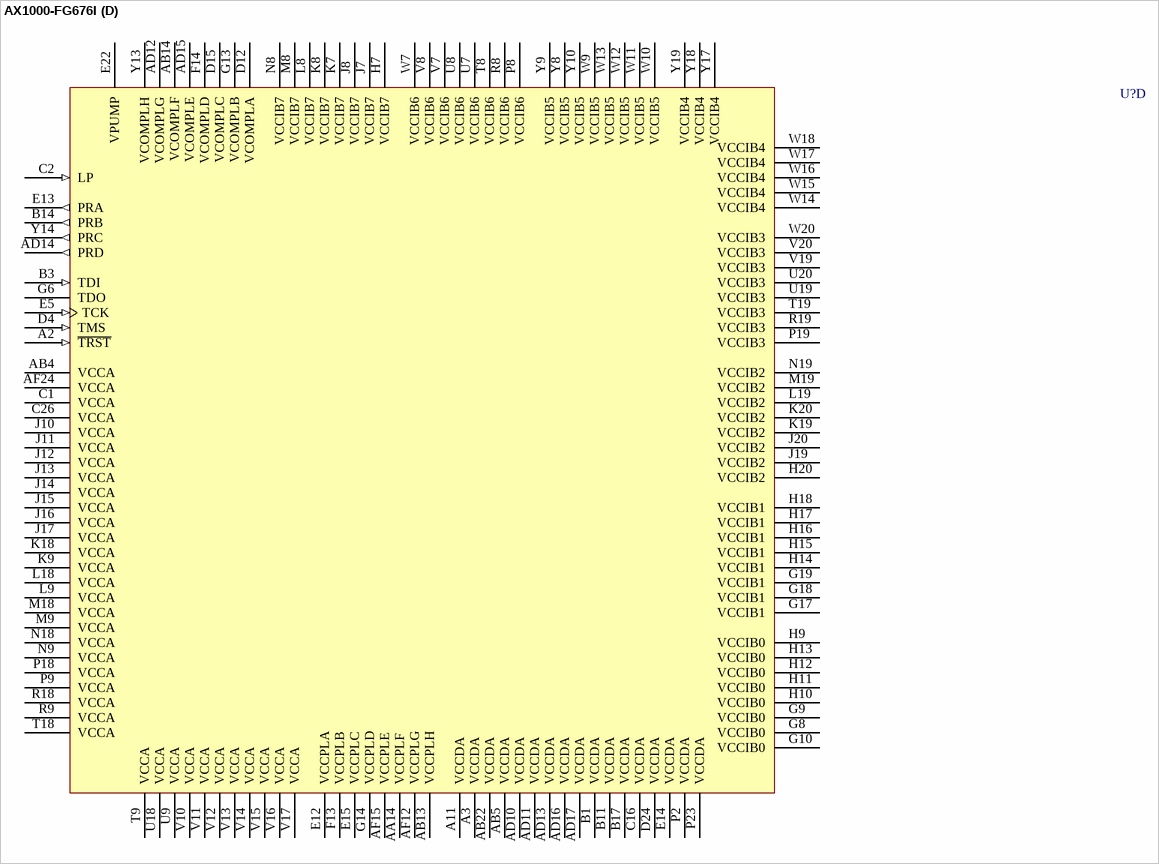
[diagram p248: symbol AX1000-FG676I]

## AX1000-FG676I
designator U?
Axcelerator AX1000 FPGA, 418 I/Os, 676-Pin FBGA, Standard Speed Grade, Industrial Grade; ComponentAvailability: Limited Availability; Published: 21-May-2003; LatestRevisionDate: 13-Apr-2006; LatestRevisionNote: IPC-7351 Footprint Added.; DatasheetVersion: Jan-2005; PackageVersion: v9.2, Apr-2006; PackageReference: FG676; Publisher: Altium Limited; PackageDescription: 676-Ball Fine Pitch Plastic Ball Grid Array (FG676); Code_JEDEC: MS-034-AAL-1; Code_IPC: BGA100P26X26-676; ComponentLink1Description: Manufacturer Link; ComponentLink1URL: http://www.actel.com/products/axcelerator/index.html; ComponentLink2Description: Datasheet; ComponentLink2URL: http://www.actel.com/documents/AXDS.pdf
footprint FG676 (BGA, 676-Leads, Body 27x27mm, Pitch 1mm)
3D model AX1000-FG676 (676-Ball Fine Pitch Plastic Ball Grid Array (FG676))
part A pins: A4 IO05PB0F0 (io), A5 IO05NB0F0 (io), A6 IO11PB0F0 (io), A7 IO11NB0F0 (io), A9 IO19PB0F1 (io), A10 IO19NB0F1 (io), A12 IO30NB0F2/HCLKAN (io), A15 IO33NB1F3/HCLKDN (io), A16 IO35PB1F3 (io), A17 IO40PB1F3 (io), A18 IO40NB1F3 (io), A20 IO46PB1F4 (io), A21 IO49PB1F4 (io), A22 IO49NB1F4 (io), A23 IO57PB1F5 (io), A24 IO59PB1F5 (io), AA22 IO128NB3F11 (io), AA23 IO126PB3F11 (io), AA24 IO122NB3F11 (io), AA25 IO119PB3F11 (io), AA26 IO116NB3F10 (io), AB23 IO126NB3F11 (io), AB24 IO127PB3F11 (io), AB25 IO119NB3F11 (io), AB26 IO118PB3F11 (io), AC24 IO127NB3F11 (io), AC25 IO125PB3F11 (io), AC26 IO118NB3F11 (io), AD25 IO125NB3F11 (io), AD26 IO123PB3F11 (io), AE26 IO123NB3F11 (io), B4 IO00NB0F0 (io), B5 IO04NB0F0 (io), B6 IO07NB0F0 (io), B7 IO13PB0F1 (io), B8 IO13NB0F1 (io), B9 IO18NB0F1 (io), B10 IO21NB0F1 (io), B12 IO30PB0F2/HCLKAP (io), B13 IO31PB0F2/HCLKBP (io), B15 IO33PB1F3/HCLKDP (io), B16 IO35NB1F3 (io), B18 IO45PB1F4 (io), B19 IO45NB1F4 (io), B20 IO46NB1F4 (io), B21 IO54PB1F5 (io), B22 IO54NB1F5 (io), B23 IO57NB1F5 (io), B24 IO59NB1F5 (io), C4 IO00PB0F0 (io), C5 IO04PB0F0 (io), C6 IO07PB0F0 (io), C7 IO08NB0F0 (io), C8 IO12NB0F1 (io), C9 IO18PB0F1 (io), C10 IO21PB0F1 (io), C11 IO26PB0F2 (io), C12 IO26NB0F2 (io), C13 IO31NB0F2/HCLKBN (io), C14 IO32PB1F3/HCLKCP (io), C15 IO32NB1F3/HCLKCN (io), C17 IO41PB1F4 (io), C18 IO41NB1F4 (io), C19 IO51PB1F4 (io), C20 IO52PB1F4 (io), C21 IO55PB1F5 (io), C22 IO58PB1F5 (io), C23 IO62PB1F5 (io), C25 IO69PB2F6 (io), D5 IO03PB0F0 (io), D6 IO03NB0F0 (io), D7 IO08PB0F0 (io), D8 IO12PB0F1 (io), D9 IO14NB0F1 (io), D10 IO20NB0F1 (io), D11 IO24NB0F2 (io), D16 IO42NB1F4 (io), D17 IO44PB1F4 (io), D18 IO44NB1F4 (io), D19 IO51NB1F4 (io), D20 IO52NB1F4 (io), D21 IO55NB1F5 (io), D22 IO58NB1F5 (io), D23 IO62NB1F5 (io), D25 IO69NB2F6 (io), D26 IO73PB2F6 (io), E6 IO02PB0F0 (io), E7 IO02NB0F0 (io), E8 IO10PB0F0 (io), E9 IO14PB0F1 (io), E10 IO20PB0F1 (io), E11 IO24PB0F2 (io), E16 IO42PB1F4 (io), E17 IO48PB1F4 (io), E18 IO50NB1F4 (io), E19 IO56PB1F5 (io), E20 IO60PB1F5 (io), E21 IO60NB1F5 (io), E23 IO67PB2F6 (io), E24 IO67NB2F6 (io), E25 IO71PB2F6 (io), E26 IO73NB2F6 (io), F6 IO06PB0F0 (io), F7 IO06NB0F0 (io), F8 IO10NB0F0 (io), F9 IO16PB0F1 (io), F10 IO16NB0F1 (io), F11 IO22NB0F2 (io), F12 IO28NB0F2 (io), F15 IO36NB1F3 (io), F16 IO38NB1F3 (io), F17 IO48NB1F4 (io), F18 IO50PB1F4 (io), F19 IO56NB1F5 (io), F20 IO63PB1F5 (io), F21 IO63NB1F5 (io), F22 IO65PB2F6 (io), F23 IO66PB2F6 (io), F24 IO66NB2F6 (io), F25 IO71NB2F6 (io), F26 IO72PB2F6 (io), G11 IO22PB0F2 (io), G12 IO28PB0F2 (io), G15 IO36PB1F3 (io), G16 IO38PB1F3 (io), G21 IO64PB2F6 (io), G22 IO65NB2F6 (io), G23 IO70PB2F6 (io), G24 IO70NB2F6 (io), G25 IO77PB2F7 (io), G26 IO72NB2F6 (io), H21 IO64NB2F6 (io), H22 IO68PB2F6 (io), H23 IO68NB2F6 (io), H24 IO75PB2F7 (io), H25 IO77NB2F7 (io), J21 IO74NB2F7 (io), J22 IO74PB2F7 (io), J23 IO76PB2F7 (io), J24 IO75NB2F7 (io), J25 IO78PB2F7 (io), J26 IO81PB2F7 (io), K21 IO80NB2F7 (io), K22 IO80PB2F7 (io), K23 IO76NB2F7 (io), K24 IO82PB2F7 (io), K25 IO78NB2F7 (io), K26 IO81NB2F7 (io), L20 IO84NB2F7 (io), L21 IO84PB2F7 (io), L22 IO83PB2F7 (io), L23 IO83NB2F7 (io), L24 IO82NB2F7 (io), L25 IO86PB2F8 (io), L26 IO86NB2F8 (io), M20 IO90NB2F8 (io), M21 IO90PB2F8 (io), M22 IO88PB2F8 (io), M23 IO88NB2F8 (io), M24 IO91PB2F8 (io), M25 IO89PB2F8 (io), M26 IO89NB2F8 (io), N20 IO94NB2F8 (io), N21 IO94PB2F8 (io), N22 IO92NB2F8 (io), N23 IO92PB2F8 (io), N24 IO91NB2F8 (io), N25 IO95PB2F8 (io), P20 IO98NB3F9 (io), P21 IO98PB3F9 (io), P22 IO100PB3F9 (io), P24 IO99PB3F9 (io), P25 IO95NB2F8 (io), R20 IO102PB3F9 (io), R21 IO102NB3F9 (io), R22 IO100NB3F9 (io), R23 IO106PB3F9 (io), R24 IO99NB3F9 (io), R25 IO103PB3F9 (io), R26 IO101PB3F9 (io), T20 IO110PB3F10 (io), T21 IO110NB3F10 (io), T22 IO108PB3F10 (io), T23 IO106NB3F9 (io), T24 IO107PB3F10 (io), T25 IO103NB3F9 (io), T26 IO101NB3F9 (io), U21 IO114PB3F10 (io), U22 IO108NB3F10 (io), U23 IO112PB3F10 (io), U24 IO107NB3F10 (io), U25 IO109PB3F10 (io), U26 IO105PB3F9 (io), V21 IO114NB3F10 (io), V22 IO120PB3F11 (io), V23 IO112NB3F10 (io), V24 IO115PB3F10 (io), V25 IO109NB3F10 (io), V26 IO105NB3F9 (io), W21 IO124PB3F11 (io), W22 IO120NB3F11 (io), W23 IO121PB3F11 (io), W24 IO115NB3F10 (io), W25 IO113PB3F10 (io), Y21 IO124NB3F11 (io), Y22 IO128PB3F11 (io), Y23 IO121NB3F11 (io), Y24 IO122PB3F11 (io), Y25 IO113NB3F10 (io), Y26 IO116PB3F10 (io)
part B pins: AA1 IO208PB6F19 (io), AA2 IO199NB6F18 (io), AA3 IO200PB6F18 (io), AA4 IO195PB6F18 (io), AA5 IO193PB6F18 (io), AA6 IO192NB5F17 (io), AA7 IO192PB5F17 (io), AA8 IO185NB5F17 (io), AA9 IO181NB5F17 (io), AA10 IO177NB5F16 (io), AA11 IO169PB5F15 (io), AA12 IO167PB5F15 (io), AA13 IO165PB5F15 (io), AA15 IO155NB4F14 (io), AA16 IO149NB4F13 (io), AA17 IO147NB4F13 (io), AA18 IO147PB4F13 (io), AA19 IO137PB4F12 (io), AA20 IO133PB4F12 (io), AA21 IO129PB4F12 (io), AB1 IO202NB6F18 (io), AB2 IO199PB6F18 (io), AB3 IO194NB6F18 (io), AB6 IO189NB5F17 (io), AB7 IO189PB5F17 (io), AB8 IO185PB5F17 (io), AB9 IO181PB5F17 (io), AB10 IO177PB5F16 (io), AB11 IO169NB5F15 (io), AB12 IO163PB5F15 (io), AB15 IO157PB4F14 (io), AB16 IO151PB4F13 (io), AB17 IO143NB4F13 (io), AB18 IO143PB4F13 (io), AB19 IO137NB4F12 (io), AB20 IO133NB4F12 (io), AB21 IO129NB4F12 (io), AC1 IO202PB6F18 (io), AC2 IO196NB6F18 (io), AC3 IO194PB6F18 (io), AC5 IO187NB5F17 (io), AC6 IO187PB5F17 (io), AC7 IO180NB5F16 (io), AC8 IO180PB5F16 (io), AC9 IO175NB5F16 (io), AC10 IO173NB5F16 (io), AC11 IO173PB5F16 (io), AC12 IO163NB5F15 (io), AC15 IO157NB4F14 (io), AC16 IO151NB4F13 (io), AC17 IO145NB4F13 (io), AC18 IO145PB4F13 (io), AC19 IO139NB4F13 (io), AC20 IO139PB4F13 (io), AC21 IO134NB4F12 (io), AC22 IO134PB4F12 (io), AD1 IO198NB6F18 (io), AD2 IO196PB6F18 (io), AD4 IO188NB5F17 (io), AD5 IO188PB5F17 (io), AD6 IO183NB5F17 (io), AD7 IO179NB5F16 (io), AD8 IO179PB5F16 (io), AD9 IO175PB5F16 (io), AD18 IO146NB4F13 (io), AD19 IO146PB4F13 (io), AD20 IO141NB4F13 (io), AD21 IO141PB4F13 (io), AD22 IO131NB4F12 (io), AD23 IO131PB4F12 (io), AE1 IO198PB6F18 (io), AE3 IO191NB5F17 (io), AE4 IO190PB5F17 (io), AE5 IO184NB5F17 (io), AE6 IO183PB5F17 (io), AE7 IO174NB5F16 (io), AE8 IO174PB5F16 (io), AE9 IO171NB5F16 (io), AE10 IO171PB5F16 (io), AE11 IO162NB5F15/CLKHN (io), AE12 IO161NB5F15/CLKGN (io), AE13 IO161PB5F15/CLKGP (io), AE14 IO160NB4F14/CLKFN (io), AE15 IO160PB4F14/CLKFP (io), AE16 IO159NB4F14/CLKEN (io), AE17 IO153NB4F14 (io), AE18 IO153PB4F14 (io), AE19 IO144NB4F13 (io), AE20 IO144PB4F13 (io), AE21 IO140NB4F13 (io), AE22 IO140PB4F13 (io), AE23 IO132NB4F12 (io), AE24 IO132PB4F12 (io), AF3 IO191PB5F17 (io), AF4 IO190NB5F17 (io), AF5 IO184PB5F17 (io), AF6 IO176NB5F16 (io), AF7 IO176PB5F16 (io), AF9 IO168NB5F15 (io), AF10 IO168PB5F15 (io), AF11 IO162PB5F15/CLKHP (io), AF16 IO159PB4F14/CLKEP (io), AF17 IO154NB4F14 (io), AF18 IO154PB4F14 (io), AF20 IO148NB4F13 (io), AF21 IO148PB4F13 (io), AF22 IO135NB4F12 (io), AF23 IO135PB4F12 (io), D1 IO254PB7F23 (io), D2 IO254NB7F23 (io), D3 IO256NB7F23 (io), E1 IO248NB7F23 (io), E2 IO249NB7F23 (io), E3 IO256PB7F23 (io), E4 IO255NB7F23 (io), F1 IO248PB7F23 (io), F2 IO249PB7F23 (io), F3 IO251NB7F23 (io), F4 IO255PB7F23 (io), F5 IO257NB7F23 (io), G1 IO245PB7F22 (io), G2 IO245NB7F22 (io), G3 IO251PB7F23 (io), G4 IO250NB7F23 (io), G5 IO257PB7F23 (io), H2 IO242NB7F22 (io), H3 IO244NB7F22 (io), H4 IO250PB7F23 (io), H5 IO253PB7F23 (io), H6 IO253NB7F23 (io), J1 IO240NB7F22 (io), J2 IO242PB7F22 (io), J3 IO244PB7F22 (io), J4 IO243NB7F22 (io), J5 IO247PB7F23 (io), J6 IO247NB7F23 (io), K1 IO240PB7F22 (io), K2 IO235NB7F21 (io), K3 IO238NB7F22 (io), K4 IO243PB7F22 (io), K5 IO241PB7F22 (io), K6 IO241NB7F22 (io), L1 IO232NB7F21 (io), L2 IO235PB7F21 (io), L3 IO238PB7F22 (io), L4 IO236PB7F22 (io), L5 IO236NB7F22 (io), L6 IO237NB7F22 (io), L7 IO237PB7F22 (io), M1 IO232PB7F21 (io), M2 IO233NB7F21 (io), M3 IO233PB7F21 (io), M4 IO231PB7F21 (io), M5 IO231NB7F21 (io), M6 IO229PB7F21 (io), M7 IO229NB7F21 (io), N2 IO226NB7F21 (io), N3 IO226PB7F21 (io), N4 IO225PB7F21 (io), N5 IO225NB7F21 (io), N6 IO227NB7F21 (io), N7 IO227PB7F21 (io), P3 IO219NB6F20 (io), P4 IO223PB6F20 (io), P5 IO223NB6F20 (io), P6 IO221NB6F20 (io), P7 IO221PB6F20 (io), R1 IO220NB6F20 (io), R2 IO218NB6F20 (io), R3 IO219PB6F20 (io), R4 IO217PB6F20 (io), R5 IO217NB6F20 (io), R6 IO215NB6F20 (io), R7 IO215PB6F20 (io), T1 IO220PB6F20 (io), T2 IO218PB6F20 (io), T3 IO211NB6F19 (io), T4 IO213PB6F19 (io), T5 IO213NB6F19 (io), T6 IO209NB6F19 (io), T7 IO209PB6F19 (io), U1 IO214NB6F20 (io), U2 IO214PB6F20 (io), U3 IO211PB6F19 (io), U4 IO207NB6F19 (io), U5 IO207PB6F19 (io), U6 IO205NB6F19 (io), V1 IO212NB6F19 (io), V2 IO212PB6F19 (io), V3 IO204NB6F19 (io), V4 IO203NB6F19 (io), V5 IO201NB6F18 (io), V6 IO205PB6F19 (io), W2 IO206NB6F19 (io), W3 IO204PB6F19 (io), W4 IO203PB6F19 (io), W5 IO201PB6F18 (io), W6 IO197NB6F18 (io), Y1 IO208NB6F19 (io), Y2 IO206PB6F19 (io), Y3 IO200NB6F18 (io), Y4 IO195NB6F18 (io), Y5 IO193NB6F18 (io), Y6 IO197PB6F18 (io), Y11 IO167NB5F15 (io), Y12 IO165NB5F15 (io), Y15 IO155PB4F14 (io), Y16 IO149PB4F13 (io)
part C pins: A1 GND (power), A8 GND (power), A13 GND (power), A14 GND (power), A19 GND (power), A25 NC, A26 GND (power), AC4 GND (power), AC13 NC, AC14 NC, AC23 GND (power), AD3 GND (power), AD24 GND (power), AE2 GND (power), AE25 GND (power), AF1 GND (power), AF2 NC, AF8 GND (power), AF13 GND (power), AF14 GND (power), AF19 GND (power), AF25 NC, AF26 GND (power), B2 GND (power), B25 GND (power), B26 GND (power), C3 GND (power), C24 GND (power), D13 NC, D14 NC, G7 GND (power), G20 GND (power), H1 GND (power), H8 GND (power), H19 GND (power), H26 GND (power), J9 GND (power), J18 GND (power), K10 GND (power), K11 GND (power), K12 GND (power), K13 GND (power), K14 GND (power), K15 GND (power), K16 GND (power), K17 GND (power), L10 GND (power), L11 GND (power), L12 GND (power), L13 GND (power), L14 GND (power), L15 GND (power), L16 GND (power), L17 GND (power), M10 GND (power), M11 GND (power), M12 GND (power), M13 GND (power), M14 GND (power), M15 GND (power), M16 GND (power), M17 GND (power), N1 GND (power), N10 GND (power), N11 GND (power), N12 GND (power), N13 GND (power), N14 GND (power), N15 GND (power), N16 GND (power), N17 GND (power), N26 GND (power), P1 GND (power), P10 GND (power), P11 GND (power), P12 GND (power), P13 GND (power), P14 GND (power), P15 GND (power), P16 GND (power), P17 GND (power), P26 GND (power), R10 GND (power), R11 GND (power), R12 GND (power), R13 GND (power), R14 GND (power), R15 GND (power), R16 GND (power), R17 GND (power), T10 GND (power), T11 GND (power), T12 GND (power), T13 GND (power), T14 GND (power), T15 GND (power), T16 GND (power), T17 GND (power), U10 GND (power), U11 GND (power), U12 GND (power), U13 GND (power), U14 GND (power), U15 GND (power), U16 GND (power), U17 GND (power), V9 GND (power), V18 GND (power), W1 GND (power), W8 GND (power), W19 GND (power), W26 GND (power), Y7 GND (power), Y20 GND (power)
part D pins: A2 ~{TRST} (in), A3 VCCDA (power), A11 VCCDA (power), AA14 VCCPLF (power), AB4 VCCA (power), AB5 VCCDA (power), AB13 VCCPLH (power), AB14 VCOMPLF (power), AB22 VCCDA (power), AD10 VCCDA (power), AD11 VCCDA (power), AD12 VCOMPLG (power), AD13 VCCDA (power), AD14 PRD (out), AD15 VCOMPLE (power), AD16 VCCDA (power), AD17 VCCDA (power), AF12 VCCPLG (power), AF15 VCCPLE (power), AF24 VCCA (power), B1 VCCDA (power), B3 TDI (in), B11 VCCDA (power), B14 PRB (out), B17 VCCDA (power), C1 VCCA (power), C2 LP (in), C16 VCCDA (power), C26 VCCA (power), D4 TMS (in), D12 VCOMPLA (power), D15 VCOMPLC (power), D24 VCCDA (power), E5 TCK (in), E12 VCCPLA (power), E13 PRA (out), E14 VCCDA (power), E15 VCCPLC (power), E22 VPUMP (power), F13 VCCPLB (power), F14 VCOMPLD (power), G6 TDO (hiz), G8 VCCIB0 (power), G9 VCCIB0 (power), G10 VCCIB0 (power), G13 VCOMPLB (power), G14 VCCPLD (power), G17 VCCIB1 (power), G18 VCCIB1 (power), G19 VCCIB1 (power), H7 VCCIB7 (power), H9 VCCIB0 (power), H10 VCCIB0 (power), H11 VCCIB0 (power), H12 VCCIB0 (power), H13 VCCIB0 (power), H14 VCCIB1 (power), H15 VCCIB1 (power), H16 VCCIB1 (power), H17 VCCIB1 (power), H18 VCCIB1 (power), H20 VCCIB2 (power), J7 VCCIB7 (power), J8 VCCIB7 (power), J10 VCCA (power), J11 VCCA (power), J12 VCCA (power), J13 VCCA (power), J14 VCCA (power), J15 VCCA (power), J16 VCCA (power), J17 VCCA (power), J19 VCCIB2 (power), J20 VCCIB2 (power), K7 VCCIB7 (power), K8 VCCIB7 (power), K9 VCCA (power), K18 VCCA (power), K19 VCCIB2 (power), K20 VCCIB2 (power), L8 VCCIB7 (power), L9 VCCA (power), L18 VCCA (power), L19 VCCIB2 (power), M8 VCCIB7 (power), M9 VCCA (power), M18 VCCA (power), M19 VCCIB2 (power), N8 VCCIB7 (power), N9 VCCA (power), N18 VCCA (power), N19 VCCIB2 (power), P2 VCCDA (power), P8 VCCIB6 (power), P9 VCCA (power), P18 VCCA (power), P19 VCCIB3 (power), P23 VCCDA (power), R8 VCCIB6 (power), R9 VCCA (power), R18 VCCA (power), R19 VCCIB3 (power), T8 VCCIB6 (power), T9 VCCA (power), T18 VCCA (power), T19 VCCIB3 (power), U7 VCCIB6 (power), U8 VCCIB6 (power), U9 VCCA (power), U18 VCCA (power), U19 VCCIB3 (power), U20 VCCIB3 (power), V7 VCCIB6 (power), V8 VCCIB6 (power), V10 VCCA (power), V11 VCCA (power), V12 VCCA (power), V13 VCCA (power), V14 VCCA (power), V15 VCCA (power), V16 VCCA (power), V17 VCCA (power), V19 VCCIB3 (power), V20 VCCIB3 (power), W7 VCCIB6 (power), W9 VCCIB5 (power), W10 VCCIB5 (power), W11 VCCIB5 (power), W12 VCCIB5 (power), W13 VCCIB5 (power), W14 VCCIB4 (power), W15 VCCIB4 (power), W16 VCCIB4 (power), W17 VCCIB4 (power), W18 VCCIB4 (power), W20 VCCIB3 (power), Y8 VCCIB5 (power), Y9 VCCIB5 (power), Y10 VCCIB5 (power), Y13 VCOMPLH (power), Y14 PRC (out), Y17 VCCIB4 (power), Y18 VCCIB4 (power), Y19 VCCIB4 (power)
part A text: Bank 0; Bank 3; Bank 1; Bank 2
part B text: Bank 4; Bank 7; Bank 5; Bank 6

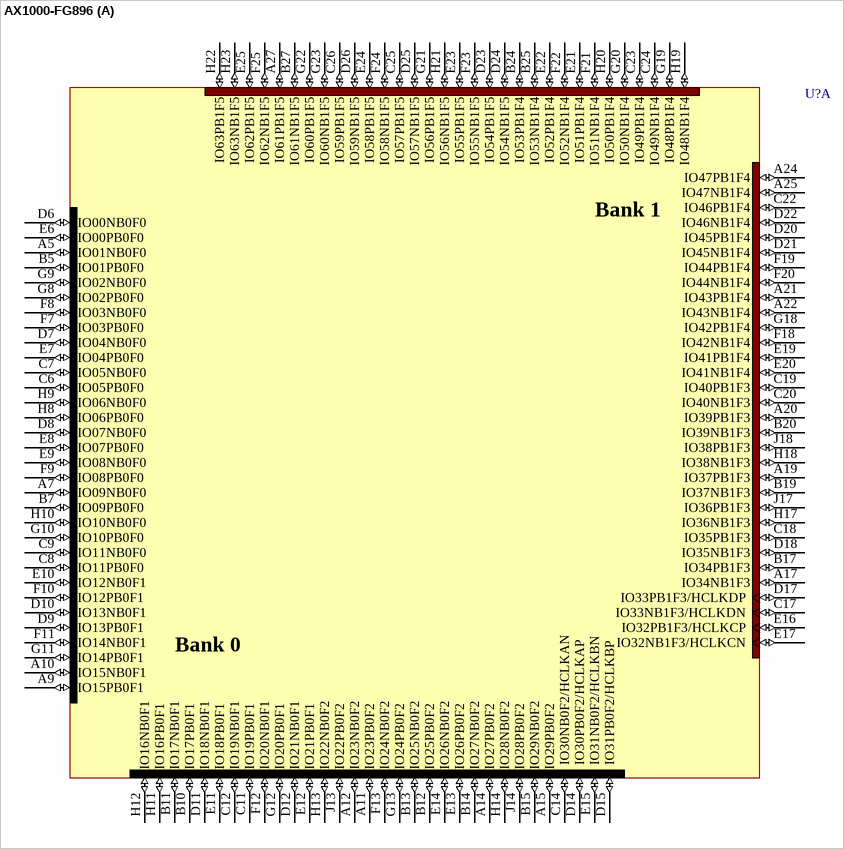
[diagram p249: symbol AX1000-FG896]

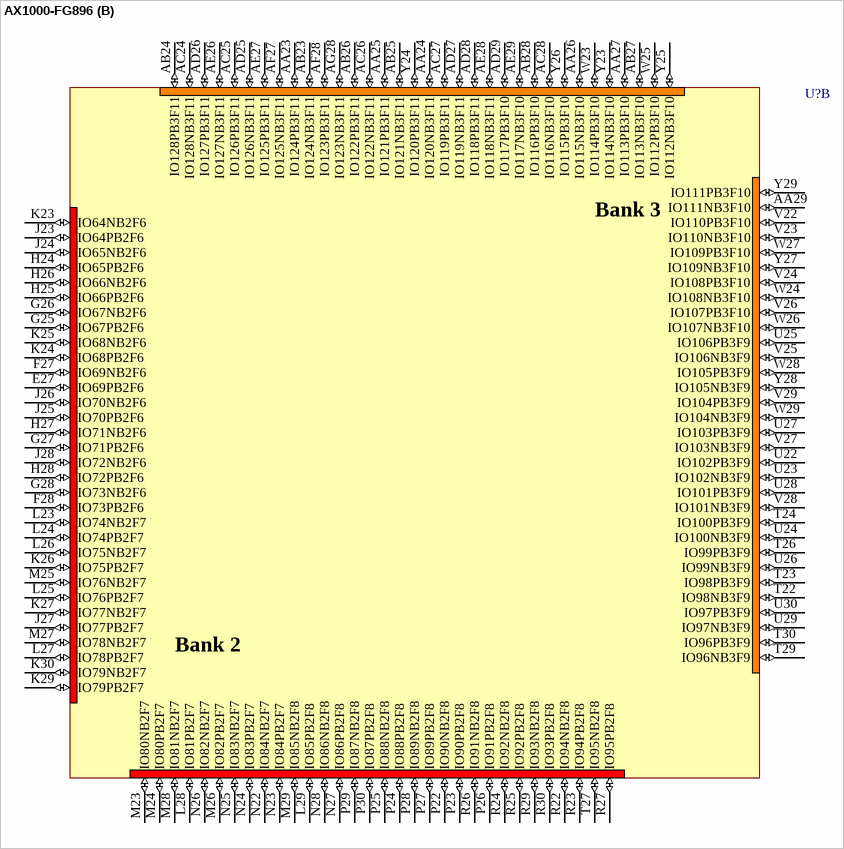
[diagram p250: symbol AX1000-FG896]

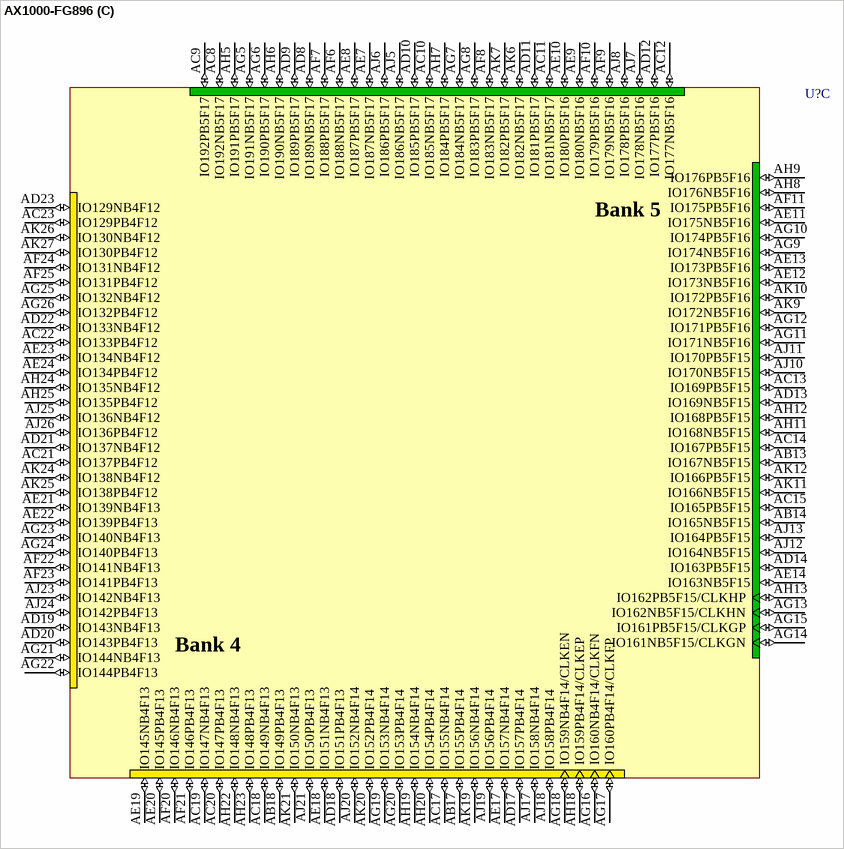
[diagram p251: symbol AX1000-FG896]

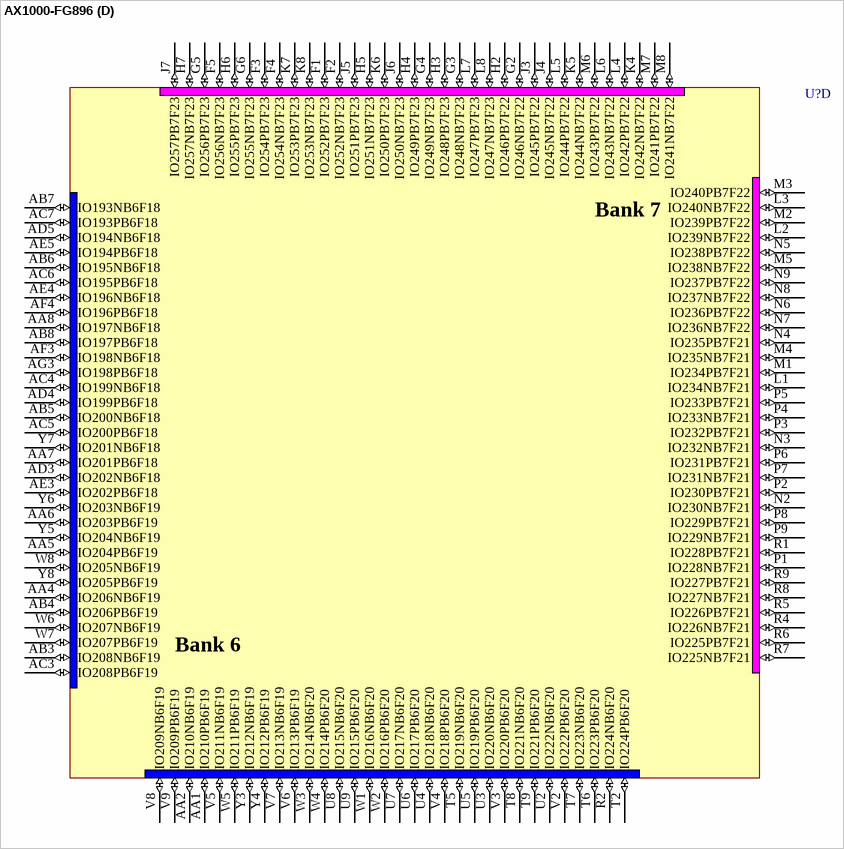
[diagram p252: symbol AX1000-FG896]

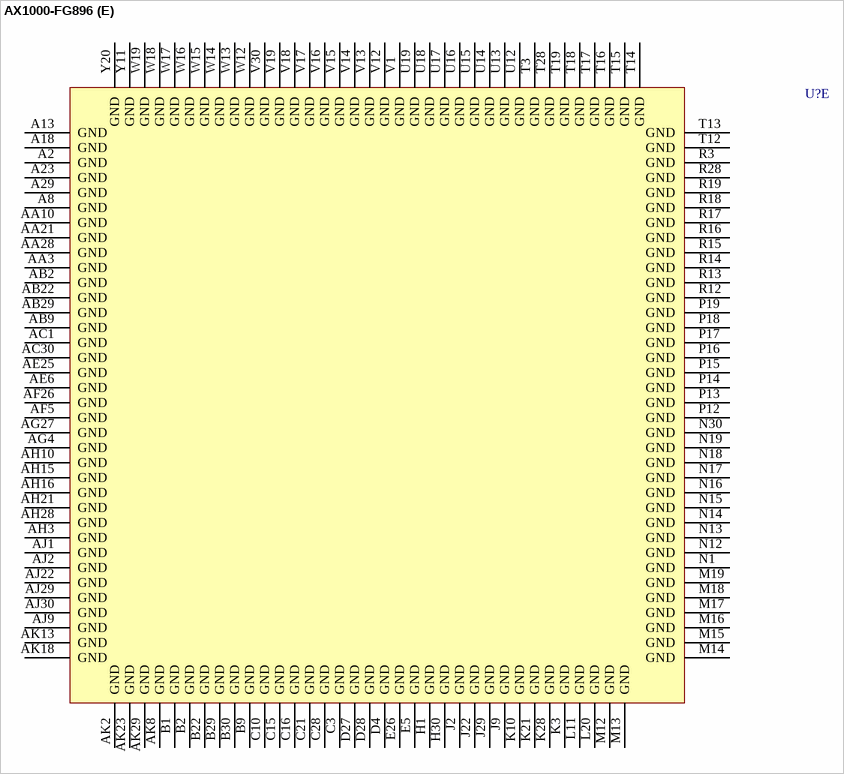
[diagram p253: symbol AX1000-FG896]

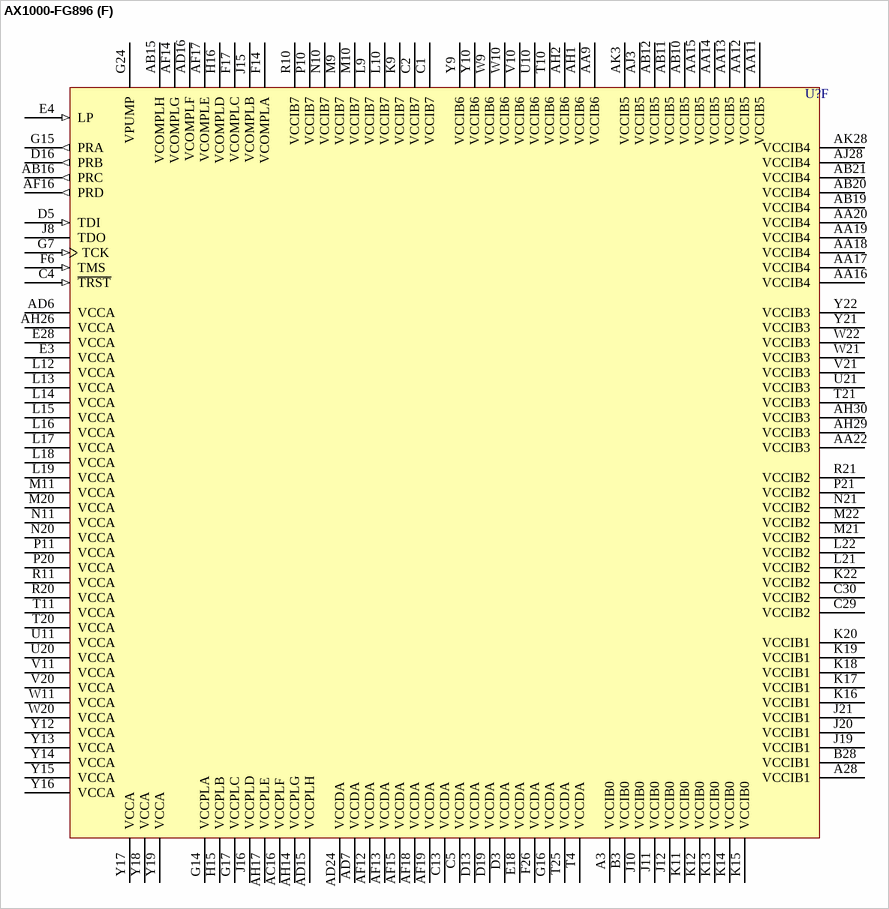
[diagram p254: symbol AX1000-FG896]

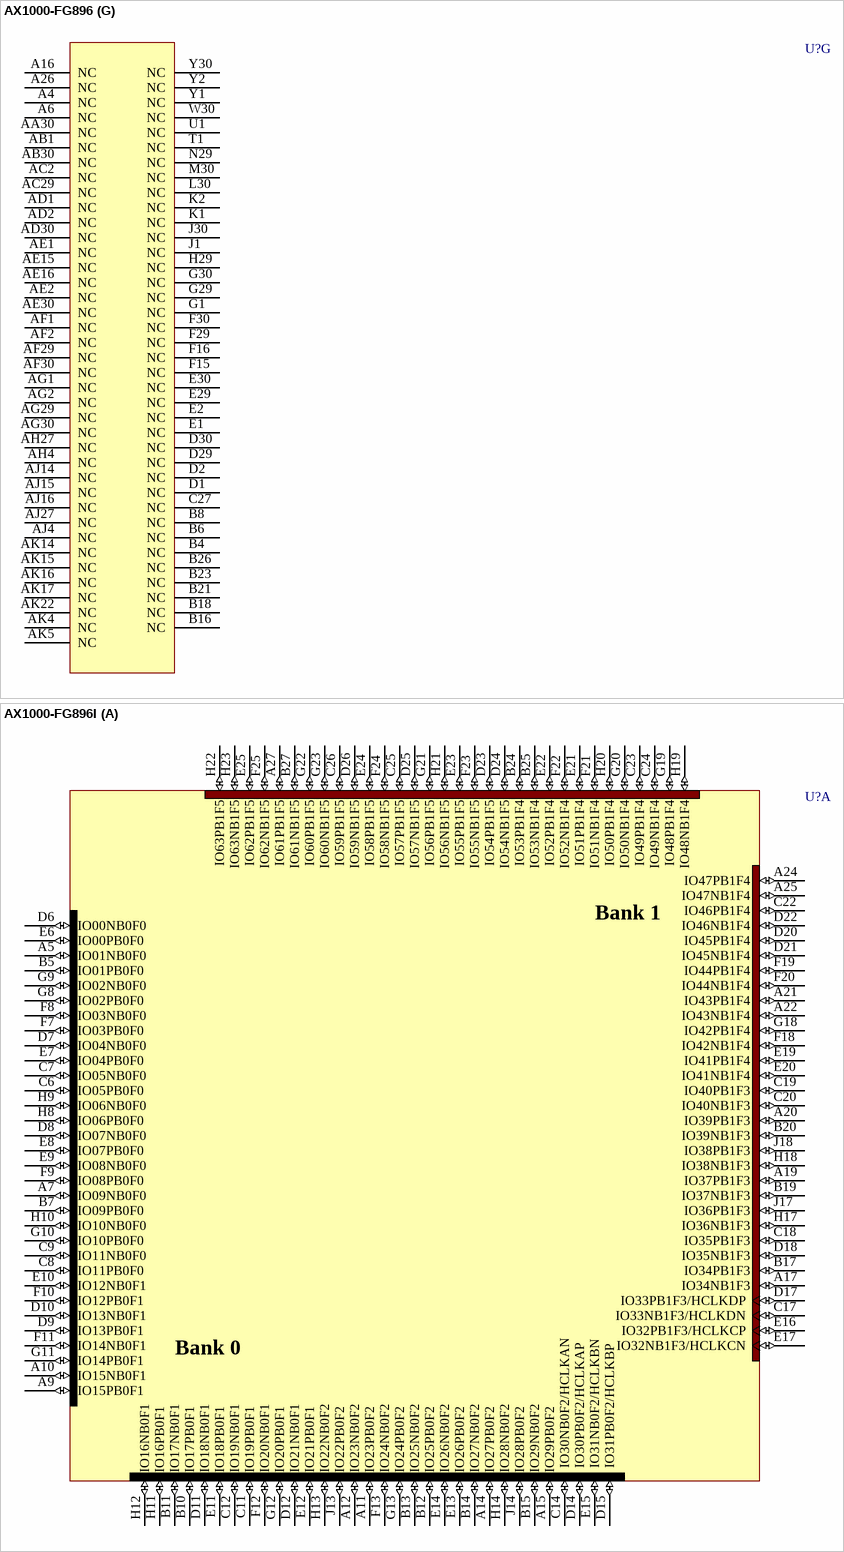
[diagram p255: symbols AX1000-FG896 to AX1000-FG896I]